# Altium schematic symbol library MCU_Microchip_PIC16.SchLib: 252 symbols (part 3 of 5)
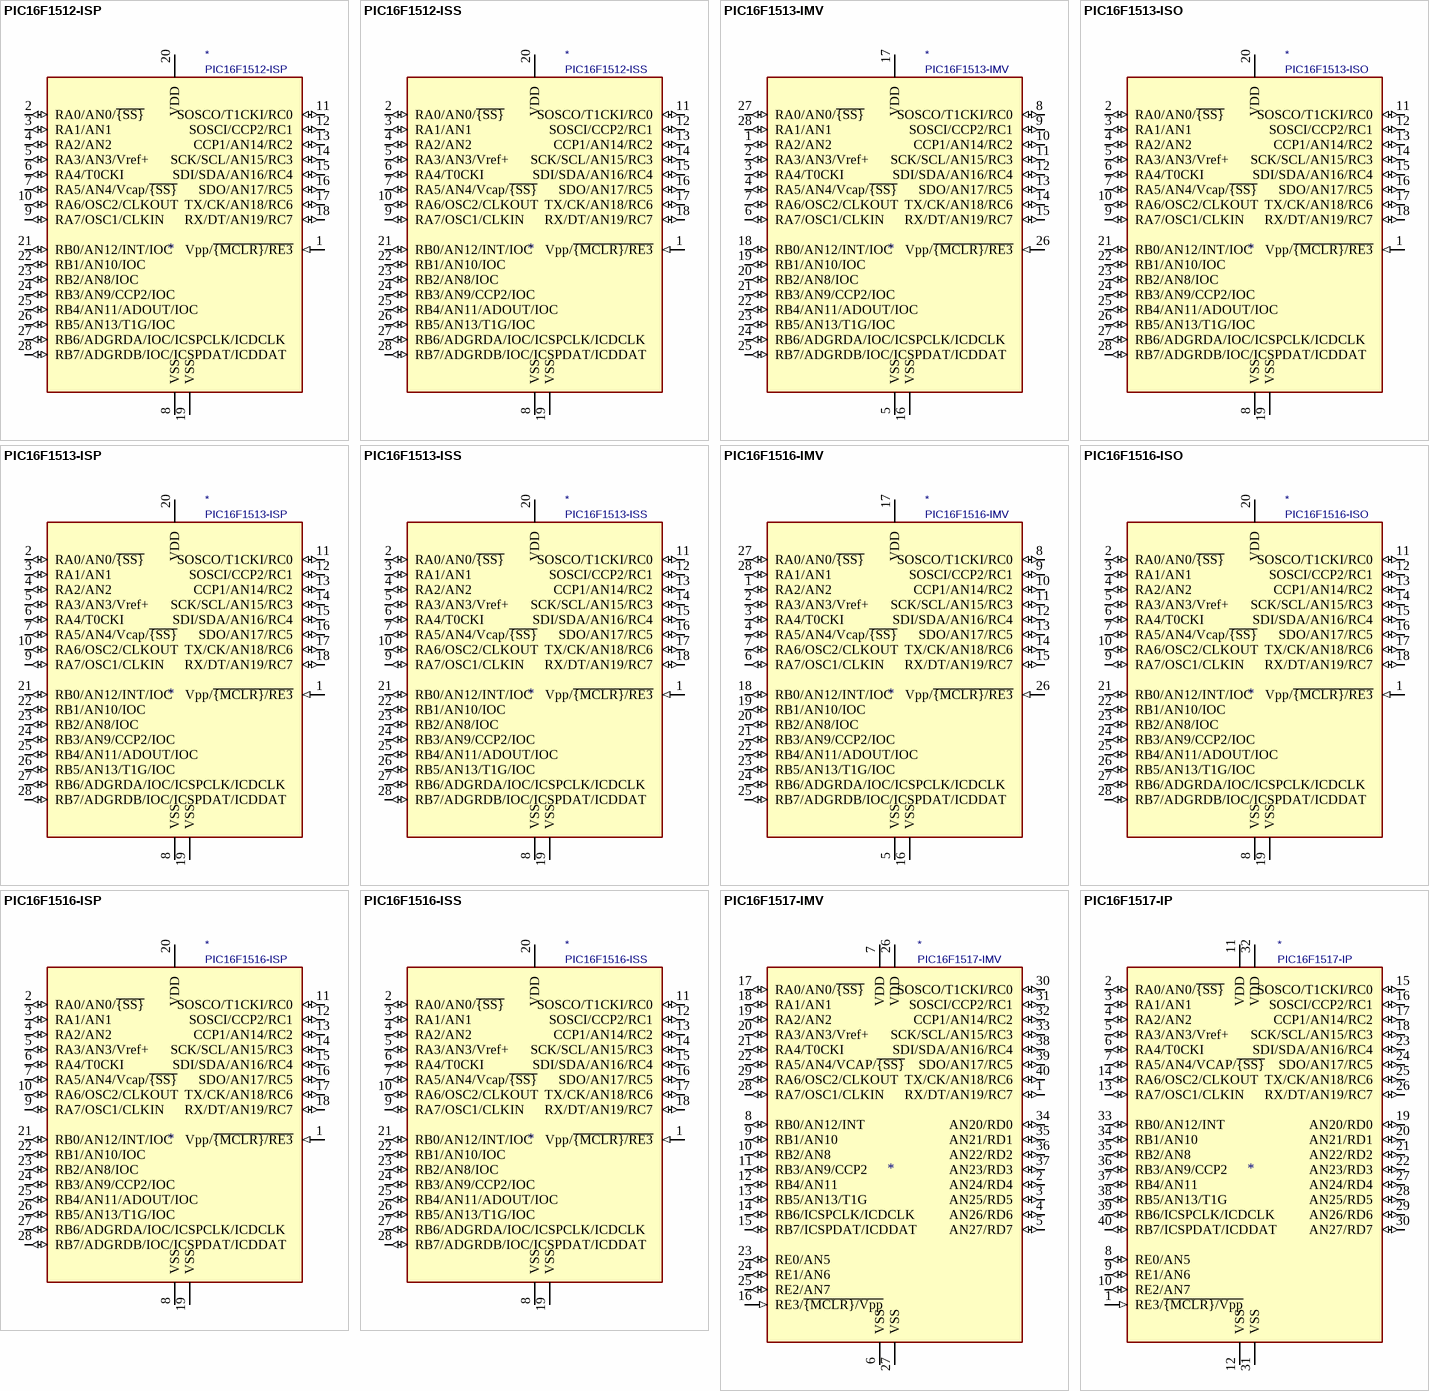
[diagram p20: symbols PIC16F1512-ISP to PIC16F1517-IP]

## PIC16F1512-ISP
designator *  value PIC16F1512-ISP
ki_keywords: FLASH-Based 8-Bit CMOS Microcontroller XLP; ki_description: PIC16F1512, 2048W FLASH, 128B SRAM, SPDIP-28; ki_fp_filters: DIP* PDIP* SO* SSOP*; Supplier: http://ww1.microchip.com/downloads/en/DeviceDoc/41624A.pdf
pins: 1 Vpp/~{{MCLR}/RE3} (in), 2 RA0/AN0/~{{SS}} (io), 3 RA1/AN1 (io), 4 RA2/AN2 (io), 5 RA3/AN3/Vref+ (io), 6 RA4/T0CKI (io), 7 RA5/AN4/Vcap/~{{SS}} (io), 8 VSS (power), 9 RA7/OSC1/CLKIN (io), 10 RA6/OSC2/CLKOUT (io), 11 SOSCO/T1CKI/RC0 (io), 12 SOSCI/CCP2/RC1 (io), 13 CCP1/AN14/RC2 (io), 14 SCK/SCL/AN15/RC3 (io), 15 SDI/SDA/AN16/RC4 (io), 16 SDO/AN17/RC5 (io), 17 TX/CK/AN18/RC6 (io), 18 RX/DT/AN19/RC7 (io), 19 VSS (power), 20 VDD (power), 21 RB0/AN12/INT/IOC (io), 22 RB1/AN10/IOC (io), 23 RB2/AN8/IOC (io), 24 RB3/AN9/CCP2/IOC (io), 25 RB4/AN11/ADOUT/IOC (io), 26 RB5/AN13/T1G/IOC (io), 27 RB6/ADGRDA/IOC/ICSPCLK/ICDCLK (io), 28 RB7/ADGRDB/IOC/ICSPDAT/ICDDAT (io)

## PIC16F1512-ISS
designator *  value PIC16F1512-ISS
ki_keywords: FLASH-Based 8-Bit CMOS Microcontroller XLP; ki_description: PIC16F1512, 2048W FLASH, 128B SRAM, SSOP-28; ki_fp_filters: DIP* PDIP* SO* SSOP*; Supplier: http://ww1.microchip.com/downloads/en/DeviceDoc/41624A.pdf
pins: 1 Vpp/~{{MCLR}/RE3} (in), 2 RA0/AN0/~{{SS}} (io), 3 RA1/AN1 (io), 4 RA2/AN2 (io), 5 RA3/AN3/Vref+ (io), 6 RA4/T0CKI (io), 7 RA5/AN4/Vcap/~{{SS}} (io), 8 VSS (power), 9 RA7/OSC1/CLKIN (io), 10 RA6/OSC2/CLKOUT (io), 11 SOSCO/T1CKI/RC0 (io), 12 SOSCI/CCP2/RC1 (io), 13 CCP1/AN14/RC2 (io), 14 SCK/SCL/AN15/RC3 (io), 15 SDI/SDA/AN16/RC4 (io), 16 SDO/AN17/RC5 (io), 17 TX/CK/AN18/RC6 (io), 18 RX/DT/AN19/RC7 (io), 19 VSS (power), 20 VDD (power), 21 RB0/AN12/INT/IOC (io), 22 RB1/AN10/IOC (io), 23 RB2/AN8/IOC (io), 24 RB3/AN9/CCP2/IOC (io), 25 RB4/AN11/ADOUT/IOC (io), 26 RB5/AN13/T1G/IOC (io), 27 RB6/ADGRDA/IOC/ICSPCLK/ICDCLK (io), 28 RB7/ADGRDB/IOC/ICSPDAT/ICDDAT (io)

## PIC16F1513-IMV
designator *  value PIC16F1513-IMV
ki_keywords: FLASH-Based 8-Bit CMOS Microcontroller XLP; ki_description: PIC16F1513, 4096W FLASH, 256B SRAM, UQFN-28; ki_fp_filters: UQFN*; Supplier: http://ww1.microchip.com/downloads/en/DeviceDoc/41624A.pdf
pins: 1 RA2/AN2 (io), 2 RA3/AN3/Vref+ (io), 3 RA4/T0CKI (io), 4 RA5/AN4/Vcap/~{{SS}} (io), 5 VSS (power), 6 RA7/OSC1/CLKIN (io), 7 RA6/OSC2/CLKOUT (io), 8 SOSCO/T1CKI/RC0 (io), 9 SOSCI/CCP2/RC1 (io), 10 CCP1/AN14/RC2 (io), 11 SCK/SCL/AN15/RC3 (io), 12 SDI/SDA/AN16/RC4 (io), 13 SDO/AN17/RC5 (io), 14 TX/CK/AN18/RC6 (io), 15 RX/DT/AN19/RC7 (io), 16 VSS (power), 17 VDD (power), 18 RB0/AN12/INT/IOC (io), 19 RB1/AN10/IOC (io), 20 RB2/AN8/IOC (io), 21 RB3/AN9/CCP2/IOC (io), 22 RB4/AN11/ADOUT/IOC (io), 23 RB5/AN13/T1G/IOC (io), 24 RB6/ADGRDA/IOC/ICSPCLK/ICDCLK (io), 25 RB7/ADGRDB/IOC/ICSPDAT/ICDDAT (io), 26 Vpp/~{{MCLR}/RE3} (in), 27 RA0/AN0/~{{SS}} (io), 28 RA1/AN1 (io)

## PIC16F1513-ISO
designator *  value PIC16F1513-ISO
ki_keywords: FLASH-Based 8-Bit CMOS Microcontroller XLP; ki_description: PIC16F1513, 4096W FLASH, 2568B SRAM, SO-28; ki_fp_filters: DIP* PDIP* SO* SSOP*; Supplier: http://ww1.microchip.com/downloads/en/DeviceDoc/41624A.pdf
pins: 1 Vpp/~{{MCLR}/RE3} (in), 2 RA0/AN0/~{{SS}} (io), 3 RA1/AN1 (io), 4 RA2/AN2 (io), 5 RA3/AN3/Vref+ (io), 6 RA4/T0CKI (io), 7 RA5/AN4/Vcap/~{{SS}} (io), 8 VSS (power), 9 RA7/OSC1/CLKIN (io), 10 RA6/OSC2/CLKOUT (io), 11 SOSCO/T1CKI/RC0 (io), 12 SOSCI/CCP2/RC1 (io), 13 CCP1/AN14/RC2 (io), 14 SCK/SCL/AN15/RC3 (io), 15 SDI/SDA/AN16/RC4 (io), 16 SDO/AN17/RC5 (io), 17 TX/CK/AN18/RC6 (io), 18 RX/DT/AN19/RC7 (io), 19 VSS (power), 20 VDD (power), 21 RB0/AN12/INT/IOC (io), 22 RB1/AN10/IOC (io), 23 RB2/AN8/IOC (io), 24 RB3/AN9/CCP2/IOC (io), 25 RB4/AN11/ADOUT/IOC (io), 26 RB5/AN13/T1G/IOC (io), 27 RB6/ADGRDA/IOC/ICSPCLK/ICDCLK (io), 28 RB7/ADGRDB/IOC/ICSPDAT/ICDDAT (io)

## PIC16F1513-ISP
designator *  value PIC16F1513-ISP
ki_keywords: FLASH-Based 8-Bit CMOS Microcontroller XLP; ki_description: PIC16F1513, 4096W FLASH, 2568B SRAM, SPDIP-28; ki_fp_filters: DIP* PDIP* SO* SSOP*; Supplier: http://ww1.microchip.com/downloads/en/DeviceDoc/41624A.pdf
pins: 1 Vpp/~{{MCLR}/RE3} (in), 2 RA0/AN0/~{{SS}} (io), 3 RA1/AN1 (io), 4 RA2/AN2 (io), 5 RA3/AN3/Vref+ (io), 6 RA4/T0CKI (io), 7 RA5/AN4/Vcap/~{{SS}} (io), 8 VSS (power), 9 RA7/OSC1/CLKIN (io), 10 RA6/OSC2/CLKOUT (io), 11 SOSCO/T1CKI/RC0 (io), 12 SOSCI/CCP2/RC1 (io), 13 CCP1/AN14/RC2 (io), 14 SCK/SCL/AN15/RC3 (io), 15 SDI/SDA/AN16/RC4 (io), 16 SDO/AN17/RC5 (io), 17 TX/CK/AN18/RC6 (io), 18 RX/DT/AN19/RC7 (io), 19 VSS (power), 20 VDD (power), 21 RB0/AN12/INT/IOC (io), 22 RB1/AN10/IOC (io), 23 RB2/AN8/IOC (io), 24 RB3/AN9/CCP2/IOC (io), 25 RB4/AN11/ADOUT/IOC (io), 26 RB5/AN13/T1G/IOC (io), 27 RB6/ADGRDA/IOC/ICSPCLK/ICDCLK (io), 28 RB7/ADGRDB/IOC/ICSPDAT/ICDDAT (io)

## PIC16F1513-ISS
designator *  value PIC16F1513-ISS
ki_keywords: FLASH-Based 8-Bit CMOS Microcontroller XLP; ki_description: PIC16F1513, 4096W FLASH, 2568B SRAM, SSOP-28; ki_fp_filters: DIP* PDIP* SO* SSOP*; Supplier: http://ww1.microchip.com/downloads/en/DeviceDoc/41624A.pdf
pins: 1 Vpp/~{{MCLR}/RE3} (in), 2 RA0/AN0/~{{SS}} (io), 3 RA1/AN1 (io), 4 RA2/AN2 (io), 5 RA3/AN3/Vref+ (io), 6 RA4/T0CKI (io), 7 RA5/AN4/Vcap/~{{SS}} (io), 8 VSS (power), 9 RA7/OSC1/CLKIN (io), 10 RA6/OSC2/CLKOUT (io), 11 SOSCO/T1CKI/RC0 (io), 12 SOSCI/CCP2/RC1 (io), 13 CCP1/AN14/RC2 (io), 14 SCK/SCL/AN15/RC3 (io), 15 SDI/SDA/AN16/RC4 (io), 16 SDO/AN17/RC5 (io), 17 TX/CK/AN18/RC6 (io), 18 RX/DT/AN19/RC7 (io), 19 VSS (power), 20 VDD (power), 21 RB0/AN12/INT/IOC (io), 22 RB1/AN10/IOC (io), 23 RB2/AN8/IOC (io), 24 RB3/AN9/CCP2/IOC (io), 25 RB4/AN11/ADOUT/IOC (io), 26 RB5/AN13/T1G/IOC (io), 27 RB6/ADGRDA/IOC/ICSPCLK/ICDCLK (io), 28 RB7/ADGRDB/IOC/ICSPDAT/ICDDAT (io)

## PIC16F1516-IMV
designator *  value PIC16F1516-IMV
ki_keywords: FLASH-Based 8-Bit CMOS Microcontroller XLP; ki_description: PIC16F1516, 8192W FLASH, 512B SRAM, UQFN-28; ki_fp_filters: UQFN*; Supplier: http://ww1.microchip.com/downloads/en/DeviceDoc/41452B.pdf
pins: 1 RA2/AN2 (io), 2 RA3/AN3/Vref+ (io), 3 RA4/T0CKI (io), 4 RA5/AN4/Vcap/~{{SS}} (io), 5 VSS (power), 6 RA7/OSC1/CLKIN (io), 7 RA6/OSC2/CLKOUT (io), 8 SOSCO/T1CKI/RC0 (io), 9 SOSCI/CCP2/RC1 (io), 10 CCP1/AN14/RC2 (io), 11 SCK/SCL/AN15/RC3 (io), 12 SDI/SDA/AN16/RC4 (io), 13 SDO/AN17/RC5 (io), 14 TX/CK/AN18/RC6 (io), 15 RX/DT/AN19/RC7 (io), 16 VSS (power), 17 VDD (power), 18 RB0/AN12/INT/IOC (io), 19 RB1/AN10/IOC (io), 20 RB2/AN8/IOC (io), 21 RB3/AN9/CCP2/IOC (io), 22 RB4/AN11/ADOUT/IOC (io), 23 RB5/AN13/T1G/IOC (io), 24 RB6/ADGRDA/IOC/ICSPCLK/ICDCLK (io), 25 RB7/ADGRDB/IOC/ICSPDAT/ICDDAT (io), 26 Vpp/~{{MCLR}/RE3} (in), 27 RA0/AN0/~{{SS}} (io), 28 RA1/AN1 (io)

## PIC16F1516-ISO
designator *  value PIC16F1516-ISO
ki_keywords: FLASH-Based 8-Bit CMOS Microcontroller XLP; ki_description: PIC16F1516, 8192W FLASH, 512B SRAM, SO-28; ki_fp_filters: DIP* PDIP* SO* SSOP*; Supplier: http://ww1.microchip.com/downloads/en/DeviceDoc/41452B.pdf
pins: 1 Vpp/~{{MCLR}/RE3} (in), 2 RA0/AN0/~{{SS}} (io), 3 RA1/AN1 (io), 4 RA2/AN2 (io), 5 RA3/AN3/Vref+ (io), 6 RA4/T0CKI (io), 7 RA5/AN4/Vcap/~{{SS}} (io), 8 VSS (power), 9 RA7/OSC1/CLKIN (io), 10 RA6/OSC2/CLKOUT (io), 11 SOSCO/T1CKI/RC0 (io), 12 SOSCI/CCP2/RC1 (io), 13 CCP1/AN14/RC2 (io), 14 SCK/SCL/AN15/RC3 (io), 15 SDI/SDA/AN16/RC4 (io), 16 SDO/AN17/RC5 (io), 17 TX/CK/AN18/RC6 (io), 18 RX/DT/AN19/RC7 (io), 19 VSS (power), 20 VDD (power), 21 RB0/AN12/INT/IOC (io), 22 RB1/AN10/IOC (io), 23 RB2/AN8/IOC (io), 24 RB3/AN9/CCP2/IOC (io), 25 RB4/AN11/ADOUT/IOC (io), 26 RB5/AN13/T1G/IOC (io), 27 RB6/ADGRDA/IOC/ICSPCLK/ICDCLK (io), 28 RB7/ADGRDB/IOC/ICSPDAT/ICDDAT (io)

## PIC16F1516-ISP
designator *  value PIC16F1516-ISP
ki_keywords: FLASH-Based 8-Bit CMOS Microcontroller XLP; ki_description: PIC16F1516, 8192W FLASH, 512B SRAM, SPDIP-28; ki_fp_filters: DIP* PDIP* SO* SSOP*; Supplier: http://ww1.microchip.com/downloads/en/DeviceDoc/41452B.pdf
pins: 1 Vpp/~{{MCLR}/RE3} (in), 2 RA0/AN0/~{{SS}} (io), 3 RA1/AN1 (io), 4 RA2/AN2 (io), 5 RA3/AN3/Vref+ (io), 6 RA4/T0CKI (io), 7 RA5/AN4/Vcap/~{{SS}} (io), 8 VSS (power), 9 RA7/OSC1/CLKIN (io), 10 RA6/OSC2/CLKOUT (io), 11 SOSCO/T1CKI/RC0 (io), 12 SOSCI/CCP2/RC1 (io), 13 CCP1/AN14/RC2 (io), 14 SCK/SCL/AN15/RC3 (io), 15 SDI/SDA/AN16/RC4 (io), 16 SDO/AN17/RC5 (io), 17 TX/CK/AN18/RC6 (io), 18 RX/DT/AN19/RC7 (io), 19 VSS (power), 20 VDD (power), 21 RB0/AN12/INT/IOC (io), 22 RB1/AN10/IOC (io), 23 RB2/AN8/IOC (io), 24 RB3/AN9/CCP2/IOC (io), 25 RB4/AN11/ADOUT/IOC (io), 26 RB5/AN13/T1G/IOC (io), 27 RB6/ADGRDA/IOC/ICSPCLK/ICDCLK (io), 28 RB7/ADGRDB/IOC/ICSPDAT/ICDDAT (io)

## PIC16F1516-ISS
designator *  value PIC16F1516-ISS
ki_keywords: FLASH-Based 8-Bit CMOS Microcontroller XLP; ki_description: PIC16F1516, 8192W FLASH, 512B SRAM, SSOP-28; ki_fp_filters: DIP* PDIP* SO* SSOP*; Supplier: http://ww1.microchip.com/downloads/en/DeviceDoc/41452B.pdf
pins: 1 Vpp/~{{MCLR}/RE3} (in), 2 RA0/AN0/~{{SS}} (io), 3 RA1/AN1 (io), 4 RA2/AN2 (io), 5 RA3/AN3/Vref+ (io), 6 RA4/T0CKI (io), 7 RA5/AN4/Vcap/~{{SS}} (io), 8 VSS (power), 9 RA7/OSC1/CLKIN (io), 10 RA6/OSC2/CLKOUT (io), 11 SOSCO/T1CKI/RC0 (io), 12 SOSCI/CCP2/RC1 (io), 13 CCP1/AN14/RC2 (io), 14 SCK/SCL/AN15/RC3 (io), 15 SDI/SDA/AN16/RC4 (io), 16 SDO/AN17/RC5 (io), 17 TX/CK/AN18/RC6 (io), 18 RX/DT/AN19/RC7 (io), 19 VSS (power), 20 VDD (power), 21 RB0/AN12/INT/IOC (io), 22 RB1/AN10/IOC (io), 23 RB2/AN8/IOC (io), 24 RB3/AN9/CCP2/IOC (io), 25 RB4/AN11/ADOUT/IOC (io), 26 RB5/AN13/T1G/IOC (io), 27 RB6/ADGRDA/IOC/ICSPCLK/ICDCLK (io), 28 RB7/ADGRDB/IOC/ICSPDAT/ICDDAT (io)

## PIC16F1517-IMV
designator *  value PIC16F1517-IMV
ki_keywords: FLASH-Based 8-Bit CMOS Microcontroller XLP; ki_description: PIC16F1517, 8192W FLASH, 512B SRAM, UQFN-40; ki_fp_filters: UQFN*; Supplier: http://ww1.microchip.com/downloads/en/DeviceDoc/41452B.pdf
pins: 1 RX/DT/AN19/RC7 (io), 2 AN24/RD4 (io), 3 AN25/RD5 (io), 4 AN26/RD6 (io), 5 AN27/RD7 (io), 6 VSS (power), 7 VDD (power), 8 RB0/AN12/INT (io), 9 RB1/AN10 (io), 10 RB2/AN8 (io), 11 RB3/AN9/CCP2 (io), 12 RB4/AN11 (io), 13 RB5/AN13/T1G (io), 14 RB6/ICSPCLK/ICDCLK (io), 15 RB7/ICSPDAT/ICDDAT (io), 16 RE3/~{{MCLR}/Vpp} (in), 17 RA0/AN0/~{{SS}} (io), 18 RA1/AN1 (io), 19 RA2/AN2 (io), 20 RA3/AN3/Vref+ (io), 21 RA4/T0CKI (io), 22 RA5/AN4/VCAP/~{{SS}} (io), 23 RE0/AN5 (io), 24 RE1/AN6 (io), 25 RE2/AN7 (io), 26 VDD (power), 27 VSS (power), 28 RA7/OSC1/CLKIN (io), 29 RA6/OSC2/CLKOUT (io), 30 SOSCO/T1CKI/RC0 (io), 31 SOSCI/CCP2/RC1 (io), 32 CCP1/AN14/RC2 (io), 33 SCK/SCL/AN15/RC3 (io), 34 AN20/RD0 (io), 35 AN21/RD1 (io), 36 AN22/RD2 (io), 37 AN23/RD3 (io), 38 SDI/SDA/AN16/RC4 (io), 39 SDO/AN17/RC5 (io), 40 TX/CK/AN18/RC6 (io)

## PIC16F1517-IP
designator *  value PIC16F1517-IP
ki_keywords: FLASH-Based 8-Bit CMOS Microcontroller XLP; ki_description: 8192W FLASH, 512B SRAM, PDIP-40; ki_fp_filters: DIP* PDIP*; Supplier: http://ww1.microchip.com/downloads/en/DeviceDoc/41452B.pdf
pins: 1 RE3/~{{MCLR}/Vpp} (in), 2 RA0/AN0/~{{SS}} (io), 3 RA1/AN1 (io), 4 RA2/AN2 (io), 5 RA3/AN3/Vref+ (io), 6 RA4/T0CKI (io), 7 RA5/AN4/VCAP/~{{SS}} (io), 8 RE0/AN5 (io), 9 RE1/AN6 (io), 10 RE2/AN7 (io), 11 VDD (power), 12 VSS (power), 13 RA7/OSC1/CLKIN (io), 14 RA6/OSC2/CLKOUT (io), 15 SOSCO/T1CKI/RC0 (io), 16 SOSCI/CCP2/RC1 (io), 17 CCP1/AN14/RC2 (io), 18 SCK/SCL/AN15/RC3 (io), 19 AN20/RD0 (io), 20 AN21/RD1 (io), 21 AN22/RD2 (io), 22 AN23/RD3 (io), 23 SDI/SDA/AN16/RC4 (io), 24 SDO/AN17/RC5 (io), 25 TX/CK/AN18/RC6 (io), 26 RX/DT/AN19/RC7 (io), 27 AN24/RD4 (io), 28 AN25/RD5 (io), 29 AN26/RD6 (io), 30 AN27/RD7 (io), 31 VSS (power), 32 VDD (power), 33 RB0/AN12/INT (io), 34 RB1/AN10 (io), 35 RB2/AN8 (io), 36 RB3/AN9/CCP2 (io), 37 RB4/AN11 (io), 38 RB5/AN13/T1G (io), 39 RB6/ICSPCLK/ICDCLK (io), 40 RB7/ICSPDAT/ICDDAT (io)

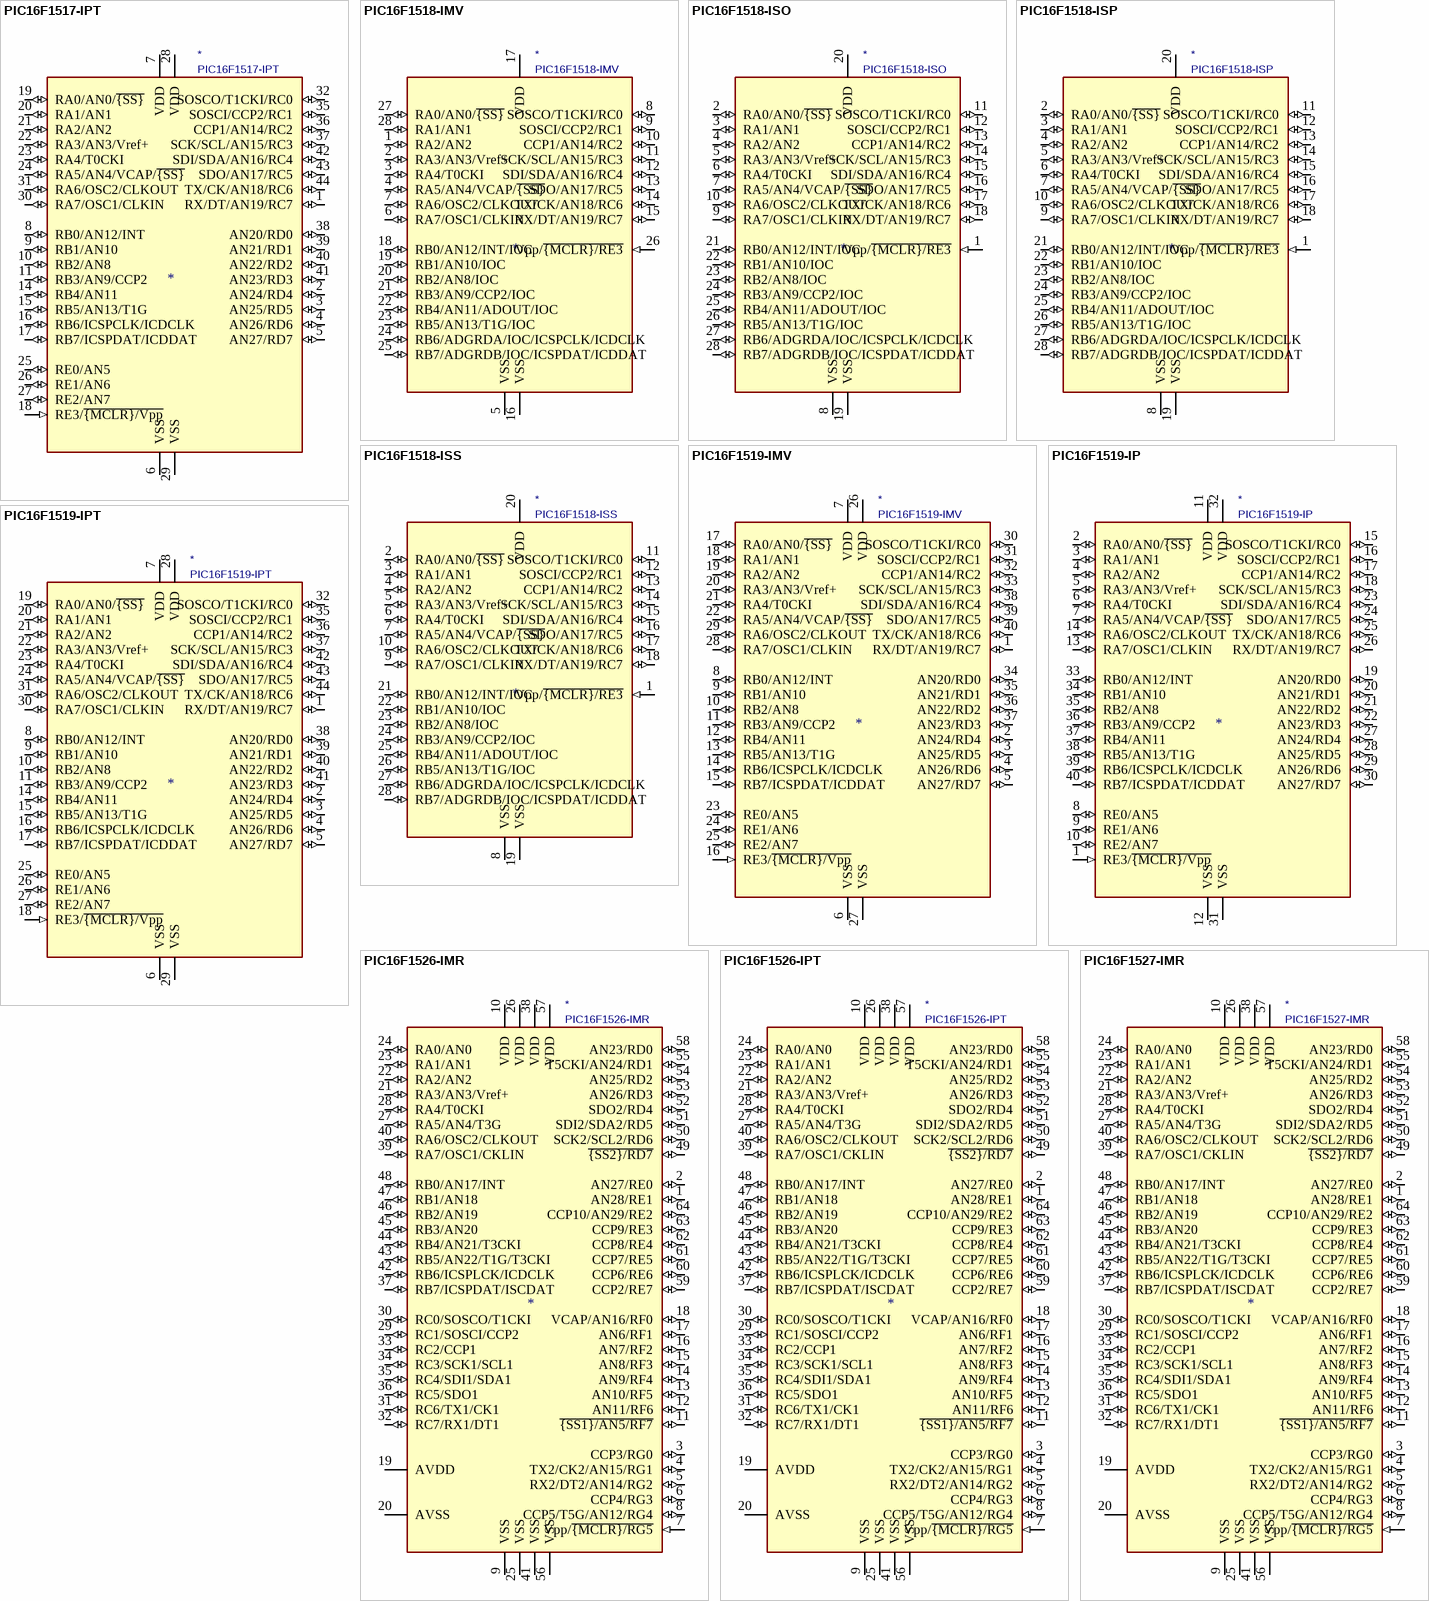
[diagram p11: symbols PIC16F1517-IPT to PIC16F1527-IMR]

## PIC16F1517-IPT
designator *  value PIC16F1517-IPT
ki_keywords: FLASH-Based 8-Bit CMOS Microcontroller XLP; ki_description: PIC16F1517, 8192W FLASH, 512B SRAM, TQFP-40; ki_fp_filters: TQFP*; Supplier: http://ww1.microchip.com/downloads/en/DeviceDoc/41452B.pdf
pins: 1 RX/DT/AN19/RC7 (io), 2 AN24/RD4 (io), 3 AN25/RD5 (io), 4 AN26/RD6 (io), 5 AN27/RD7 (io), 6 VSS (power), 7 VDD (power), 8 RB0/AN12/INT (io), 9 RB1/AN10 (io), 10 RB2/AN8 (io), 11 RB3/AN9/CCP2 (io), 14 RB4/AN11 (io), 15 RB5/AN13/T1G (io), 16 RB6/ICSPCLK/ICDCLK (io), 17 RB7/ICSPDAT/ICDDAT (io), 18 RE3/~{{MCLR}/Vpp} (in), 19 RA0/AN0/~{{SS}} (io), 20 RA1/AN1 (io), 21 RA2/AN2 (io), 22 RA3/AN3/Vref+ (io), 23 RA4/T0CKI (io), 24 RA5/AN4/VCAP/~{{SS}} (io), 25 RE0/AN5 (io), 26 RE1/AN6 (io), 27 RE2/AN7 (io), 28 VDD (power), 29 VSS (power), 30 RA7/OSC1/CLKIN (io), 31 RA6/OSC2/CLKOUT (io), 32 SOSCO/T1CKI/RC0 (io), 35 SOSCI/CCP2/RC1 (io), 36 CCP1/AN14/RC2 (io), 37 SCK/SCL/AN15/RC3 (io), 38 AN20/RD0 (io), 39 AN21/RD1 (io), 40 AN22/RD2 (io), 41 AN23/RD3 (io), 42 SDI/SDA/AN16/RC4 (io), 43 SDO/AN17/RC5 (io), 44 TX/CK/AN18/RC6 (io)

## PIC16F1518-IMV
designator *  value PIC16F1518-IMV
ki_keywords: FLASH-Based 8-Bit CMOS Microcontroller XLP; ki_description: PIC16F1518, 16384W FLASH, 1204B SRAM, UQFN-28; ki_fp_filters: UQFN*; Supplier: http://ww1.microchip.com/downloads/en/DeviceDoc/41452B.pdf
pins: 1 RA2/AN2 (io), 2 RA3/AN3/Vref+ (io), 3 RA4/T0CKI (io), 4 RA5/AN4/VCAP/~{{SS}} (io), 5 VSS (power), 6 RA7/OSC1/CLKIN (io), 7 RA6/OSC2/CLKOUT (io), 8 SOSCO/T1CKI/RC0 (io), 9 SOSCI/CCP2/RC1 (io), 10 CCP1/AN14/RC2 (io), 11 SCK/SCL/AN15/RC3 (io), 12 SDI/SDA/AN16/RC4 (io), 13 SDO/AN17/RC5 (io), 14 TX/CK/AN18/RC6 (io), 15 RX/DT/AN19/RC7 (io), 16 VSS (power), 17 VDD (power), 18 RB0/AN12/INT/IOC (io), 19 RB1/AN10/IOC (io), 20 RB2/AN8/IOC (io), 21 RB3/AN9/CCP2/IOC (io), 22 RB4/AN11/ADOUT/IOC (io), 23 RB5/AN13/T1G/IOC (io), 24 RB6/ADGRDA/IOC/ICSPCLK/ICDCLK (io), 25 RB7/ADGRDB/IOC/ICSPDAT/ICDDAT (io), 26 Vpp/~{{MCLR}/RE3} (in), 27 RA0/AN0/~{{SS}} (io), 28 RA1/AN1 (io)

## PIC16F1518-ISO
designator *  value PIC16F1518-ISO
ki_keywords: FLASH-Based 8-Bit CMOS Microcontroller XLP; ki_description: PIC16F1518, 16384W FLASH, 1024B SRAM, SO-28; ki_fp_filters: DIP* PDIP* SO* SSOP*; Supplier: http://ww1.microchip.com/downloads/en/DeviceDoc/41452B.pdf
pins: 1 Vpp/~{{MCLR}/RE3} (in), 2 RA0/AN0/~{{SS}} (io), 3 RA1/AN1 (io), 4 RA2/AN2 (io), 5 RA3/AN3/Vref+ (io), 6 RA4/T0CKI (io), 7 RA5/AN4/VCAP/~{{SS}} (io), 8 VSS (power), 9 RA7/OSC1/CLKIN (io), 10 RA6/OSC2/CLKOUT (io), 11 SOSCO/T1CKI/RC0 (io), 12 SOSCI/CCP2/RC1 (io), 13 CCP1/AN14/RC2 (io), 14 SCK/SCL/AN15/RC3 (io), 15 SDI/SDA/AN16/RC4 (io), 16 SDO/AN17/RC5 (io), 17 TX/CK/AN18/RC6 (io), 18 RX/DT/AN19/RC7 (io), 19 VSS (power), 20 VDD (power), 21 RB0/AN12/INT/IOC (io), 22 RB1/AN10/IOC (io), 23 RB2/AN8/IOC (io), 24 RB3/AN9/CCP2/IOC (io), 25 RB4/AN11/ADOUT/IOC (io), 26 RB5/AN13/T1G/IOC (io), 27 RB6/ADGRDA/IOC/ICSPCLK/ICDCLK (io), 28 RB7/ADGRDB/IOC/ICSPDAT/ICDDAT (io)

## PIC16F1518-ISP
designator *  value PIC16F1518-ISP
ki_keywords: FLASH-Based 8-Bit CMOS Microcontroller XLP; ki_description: PIC16F1518, 16384W FLASH, 1024B SRAM, SPDIP-28; ki_fp_filters: DIP* PDIP* SO* SSOP*; Supplier: http://ww1.microchip.com/downloads/en/DeviceDoc/41452B.pdf
pins: 1 Vpp/~{{MCLR}/RE3} (in), 2 RA0/AN0/~{{SS}} (io), 3 RA1/AN1 (io), 4 RA2/AN2 (io), 5 RA3/AN3/Vref+ (io), 6 RA4/T0CKI (io), 7 RA5/AN4/VCAP/~{{SS}} (io), 8 VSS (power), 9 RA7/OSC1/CLKIN (io), 10 RA6/OSC2/CLKOUT (io), 11 SOSCO/T1CKI/RC0 (io), 12 SOSCI/CCP2/RC1 (io), 13 CCP1/AN14/RC2 (io), 14 SCK/SCL/AN15/RC3 (io), 15 SDI/SDA/AN16/RC4 (io), 16 SDO/AN17/RC5 (io), 17 TX/CK/AN18/RC6 (io), 18 RX/DT/AN19/RC7 (io), 19 VSS (power), 20 VDD (power), 21 RB0/AN12/INT/IOC (io), 22 RB1/AN10/IOC (io), 23 RB2/AN8/IOC (io), 24 RB3/AN9/CCP2/IOC (io), 25 RB4/AN11/ADOUT/IOC (io), 26 RB5/AN13/T1G/IOC (io), 27 RB6/ADGRDA/IOC/ICSPCLK/ICDCLK (io), 28 RB7/ADGRDB/IOC/ICSPDAT/ICDDAT (io)

## PIC16F1518-ISS
designator *  value PIC16F1518-ISS
ki_keywords: FLASH-Based 8-Bit CMOS Microcontroller XLP; ki_description: PIC16F1518, 16384W FLASH, 1024B SRAM, SSOP-28; ki_fp_filters: DIP* PDIP* SO* SSOP*; Supplier: http://ww1.microchip.com/downloads/en/DeviceDoc/41452B.pdf
pins: 1 Vpp/~{{MCLR}/RE3} (in), 2 RA0/AN0/~{{SS}} (io), 3 RA1/AN1 (io), 4 RA2/AN2 (io), 5 RA3/AN3/Vref+ (io), 6 RA4/T0CKI (io), 7 RA5/AN4/VCAP/~{{SS}} (io), 8 VSS (power), 9 RA7/OSC1/CLKIN (io), 10 RA6/OSC2/CLKOUT (io), 11 SOSCO/T1CKI/RC0 (io), 12 SOSCI/CCP2/RC1 (io), 13 CCP1/AN14/RC2 (io), 14 SCK/SCL/AN15/RC3 (io), 15 SDI/SDA/AN16/RC4 (io), 16 SDO/AN17/RC5 (io), 17 TX/CK/AN18/RC6 (io), 18 RX/DT/AN19/RC7 (io), 19 VSS (power), 20 VDD (power), 21 RB0/AN12/INT/IOC (io), 22 RB1/AN10/IOC (io), 23 RB2/AN8/IOC (io), 24 RB3/AN9/CCP2/IOC (io), 25 RB4/AN11/ADOUT/IOC (io), 26 RB5/AN13/T1G/IOC (io), 27 RB6/ADGRDA/IOC/ICSPCLK/ICDCLK (io), 28 RB7/ADGRDB/IOC/ICSPDAT/ICDDAT (io)

## PIC16F1519-IMV
designator *  value PIC16F1519-IMV
ki_keywords: FLASH-Based 8-Bit CMOS Microcontroller XLP; ki_description: PIC16F1519, 16384W FLASH, 1024B SRAM, UQFN-40; ki_fp_filters: UQFN*; Supplier: http://ww1.microchip.com/downloads/en/DeviceDoc/41452B.pdf
pins: 1 RX/DT/AN19/RC7 (io), 2 AN24/RD4 (io), 3 AN25/RD5 (io), 4 AN26/RD6 (io), 5 AN27/RD7 (io), 6 VSS (power), 7 VDD (power), 8 RB0/AN12/INT (io), 9 RB1/AN10 (io), 10 RB2/AN8 (io), 11 RB3/AN9/CCP2 (io), 12 RB4/AN11 (io), 13 RB5/AN13/T1G (io), 14 RB6/ICSPCLK/ICDCLK (io), 15 RB7/ICSPDAT/ICDDAT (io), 16 RE3/~{{MCLR}/Vpp} (in), 17 RA0/AN0/~{{SS}} (io), 18 RA1/AN1 (io), 19 RA2/AN2 (io), 20 RA3/AN3/Vref+ (io), 21 RA4/T0CKI (io), 22 RA5/AN4/VCAP/~{{SS}} (io), 23 RE0/AN5 (io), 24 RE1/AN6 (io), 25 RE2/AN7 (io), 26 VDD (power), 27 VSS (power), 28 RA7/OSC1/CLKIN (io), 29 RA6/OSC2/CLKOUT (io), 30 SOSCO/T1CKI/RC0 (io), 31 SOSCI/CCP2/RC1 (io), 32 CCP1/AN14/RC2 (io), 33 SCK/SCL/AN15/RC3 (io), 34 AN20/RD0 (io), 35 AN21/RD1 (io), 36 AN22/RD2 (io), 37 AN23/RD3 (io), 38 SDI/SDA/AN16/RC4 (io), 39 SDO/AN17/RC5 (io), 40 TX/CK/AN18/RC6 (io)

## PIC16F1519-IP
designator *  value PIC16F1519-IP
ki_keywords: FLASH-Based 8-Bit CMOS Microcontroller XLP; ki_description: 16384W FLASH, 1024B SRAM, PDIP-40; ki_fp_filters: DIP* PDIP*; Supplier: http://ww1.microchip.com/downloads/en/DeviceDoc/41452B.pdf
pins: 1 RE3/~{{MCLR}/Vpp} (in), 2 RA0/AN0/~{{SS}} (io), 3 RA1/AN1 (io), 4 RA2/AN2 (io), 5 RA3/AN3/Vref+ (io), 6 RA4/T0CKI (io), 7 RA5/AN4/VCAP/~{{SS}} (io), 8 RE0/AN5 (io), 9 RE1/AN6 (io), 10 RE2/AN7 (io), 11 VDD (power), 12 VSS (power), 13 RA7/OSC1/CLKIN (io), 14 RA6/OSC2/CLKOUT (io), 15 SOSCO/T1CKI/RC0 (io), 16 SOSCI/CCP2/RC1 (io), 17 CCP1/AN14/RC2 (io), 18 SCK/SCL/AN15/RC3 (io), 19 AN20/RD0 (io), 20 AN21/RD1 (io), 21 AN22/RD2 (io), 22 AN23/RD3 (io), 23 SDI/SDA/AN16/RC4 (io), 24 SDO/AN17/RC5 (io), 25 TX/CK/AN18/RC6 (io), 26 RX/DT/AN19/RC7 (io), 27 AN24/RD4 (io), 28 AN25/RD5 (io), 29 AN26/RD6 (io), 30 AN27/RD7 (io), 31 VSS (power), 32 VDD (power), 33 RB0/AN12/INT (io), 34 RB1/AN10 (io), 35 RB2/AN8 (io), 36 RB3/AN9/CCP2 (io), 37 RB4/AN11 (io), 38 RB5/AN13/T1G (io), 39 RB6/ICSPCLK/ICDCLK (io), 40 RB7/ICSPDAT/ICDDAT (io)

## PIC16F1519-IPT
designator *  value PIC16F1519-IPT
ki_keywords: FLASH-Based 8-Bit CMOS Microcontroller XLP; ki_description: PIC16F1519, 16384W FLASH, 1024B SRAM, TQFP-40; ki_fp_filters: TQFP*; Supplier: http://ww1.microchip.com/downloads/en/DeviceDoc/41452B.pdf
pins: 1 RX/DT/AN19/RC7 (io), 2 AN24/RD4 (io), 3 AN25/RD5 (io), 4 AN26/RD6 (io), 5 AN27/RD7 (io), 6 VSS (power), 7 VDD (power), 8 RB0/AN12/INT (io), 9 RB1/AN10 (io), 10 RB2/AN8 (io), 11 RB3/AN9/CCP2 (io), 14 RB4/AN11 (io), 15 RB5/AN13/T1G (io), 16 RB6/ICSPCLK/ICDCLK (io), 17 RB7/ICSPDAT/ICDDAT (io), 18 RE3/~{{MCLR}/Vpp} (in), 19 RA0/AN0/~{{SS}} (io), 20 RA1/AN1 (io), 21 RA2/AN2 (io), 22 RA3/AN3/Vref+ (io), 23 RA4/T0CKI (io), 24 RA5/AN4/VCAP/~{{SS}} (io), 25 RE0/AN5 (io), 26 RE1/AN6 (io), 27 RE2/AN7 (io), 28 VDD (power), 29 VSS (power), 30 RA7/OSC1/CLKIN (io), 31 RA6/OSC2/CLKOUT (io), 32 SOSCO/T1CKI/RC0 (io), 35 SOSCI/CCP2/RC1 (io), 36 CCP1/AN14/RC2 (io), 37 SCK/SCL/AN15/RC3 (io), 38 AN20/RD0 (io), 39 AN21/RD1 (io), 40 AN22/RD2 (io), 41 AN23/RD3 (io), 42 SDI/SDA/AN16/RC4 (io), 43 SDO/AN17/RC5 (io), 44 TX/CK/AN18/RC6 (io)

## PIC16F1526-IMR
designator *  value PIC16F1526-IMR
ki_keywords: FLASH-Based 8-Bit CMOS Microcontroller XLP; ki_description: PIC16F1526, 8192W FLASH, 768B SRAM, UQFN-64; ki_fp_filters: TQFP* QFN*; Supplier: http://ww1.microchip.com/downloads/en/DeviceDoc/41458B.pdf
pins: 1 AN28/RE1 (io), 2 AN27/RE0 (io), 3 CCP3/RG0 (io), 4 TX2/CK2/AN15/RG1 (io), 5 RX2/DT2/AN14/RG2 (io), 6 CCP4/RG3 (io), 7 Vpp/~{{MCLR}/RG5} (in), 8 CCP5/T5G/AN12/RG4 (io), 9 VSS (power), 10 VDD (power), 11 ~{{SS1}/AN5/RF7} (io), 12 AN11/RF6 (io), 13 AN10/RF5 (io), 14 AN9/RF4 (io), 15 AN8/RF3 (io), 16 AN7/RF2 (io), 17 AN6/RF1 (io), 18 VCAP/AN16/RF0 (io), 19 AVDD (power), 20 AVSS (power), 21 RA3/AN3/Vref+ (io), 22 RA2/AN2 (io), 23 RA1/AN1 (io), 24 RA0/AN0 (io), 25 VSS (power), 26 VDD (power), 27 RA5/AN4/T3G (io), 28 RA4/T0CKI (io), 29 RC1/SOSCI/CCP2 (io), 30 RC0/SOSCO/T1CKI (io), 31 RC6/TX1/CK1 (io), 32 RC7/RX1/DT1 (io), 33 RC2/CCP1 (io), 34 RC3/SCK1/SCL1 (io), 35 RC4/SDI1/SDA1 (io), 36 RC5/SDO1 (io), 37 RB7/ICSPDAT/ISCDAT (io), 38 VDD (power), 39 RA7/OSC1/CKLIN (io), 40 RA6/OSC2/CLKOUT (io), 41 VSS (power), 42 RB6/ICSPLCK/ICDCLK (io), 43 RB5/AN22/T1G/T3CKI (io), 44 RB4/AN21/T3CKI (io), 45 RB3/AN20 (io), 46 RB2/AN19 (io), 47 RB1/AN18 (io), 48 RB0/AN17/INT (io), 49 ~{{SS2}/RD7} (io), 50 SCK2/SCL2/RD6 (io), 51 SDI2/SDA2/RD5 (io), 52 SDO2/RD4 (io), 53 AN26/RD3 (io), 54 AN25/RD2 (io), 55 T5CKI/AN24/RD1 (io), 56 VSS (power), 57 VDD (power), 58 AN23/RD0 (io), 59 CCP2/RE7 (io), 60 CCP6/RE6 (io), 61 CCP7/RE5 (io), 62 CCP8/RE4 (io), 63 CCP9/RE3 (io), 64 CCP10/AN29/RE2 (io)

## PIC16F1526-IPT
designator *  value PIC16F1526-IPT
ki_keywords: FLASH-Based 8-Bit CMOS Microcontroller XLP; ki_description: PIC16F1526, 8192W FLASH, 768B SRAM, TQFP-64; ki_fp_filters: TQFP* QFN*; Supplier: http://ww1.microchip.com/downloads/en/DeviceDoc/41458B.pdf
pins: 1 AN28/RE1 (io), 2 AN27/RE0 (io), 3 CCP3/RG0 (io), 4 TX2/CK2/AN15/RG1 (io), 5 RX2/DT2/AN14/RG2 (io), 6 CCP4/RG3 (io), 7 Vpp/~{{MCLR}/RG5} (in), 8 CCP5/T5G/AN12/RG4 (io), 9 VSS (power), 10 VDD (power), 11 ~{{SS1}/AN5/RF7} (io), 12 AN11/RF6 (io), 13 AN10/RF5 (io), 14 AN9/RF4 (io), 15 AN8/RF3 (io), 16 AN7/RF2 (io), 17 AN6/RF1 (io), 18 VCAP/AN16/RF0 (io), 19 AVDD (power), 20 AVSS (power), 21 RA3/AN3/Vref+ (io), 22 RA2/AN2 (io), 23 RA1/AN1 (io), 24 RA0/AN0 (io), 25 VSS (power), 26 VDD (power), 27 RA5/AN4/T3G (io), 28 RA4/T0CKI (io), 29 RC1/SOSCI/CCP2 (io), 30 RC0/SOSCO/T1CKI (io), 31 RC6/TX1/CK1 (io), 32 RC7/RX1/DT1 (io), 33 RC2/CCP1 (io), 34 RC3/SCK1/SCL1 (io), 35 RC4/SDI1/SDA1 (io), 36 RC5/SDO1 (io), 37 RB7/ICSPDAT/ISCDAT (io), 38 VDD (power), 39 RA7/OSC1/CKLIN (io), 40 RA6/OSC2/CLKOUT (io), 41 VSS (power), 42 RB6/ICSPLCK/ICDCLK (io), 43 RB5/AN22/T1G/T3CKI (io), 44 RB4/AN21/T3CKI (io), 45 RB3/AN20 (io), 46 RB2/AN19 (io), 47 RB1/AN18 (io), 48 RB0/AN17/INT (io), 49 ~{{SS2}/RD7} (io), 50 SCK2/SCL2/RD6 (io), 51 SDI2/SDA2/RD5 (io), 52 SDO2/RD4 (io), 53 AN26/RD3 (io), 54 AN25/RD2 (io), 55 T5CKI/AN24/RD1 (io), 56 VSS (power), 57 VDD (power), 58 AN23/RD0 (io), 59 CCP2/RE7 (io), 60 CCP6/RE6 (io), 61 CCP7/RE5 (io), 62 CCP8/RE4 (io), 63 CCP9/RE3 (io), 64 CCP10/AN29/RE2 (io)

## PIC16F1527-IMR
designator *  value PIC16F1527-IMR
ki_keywords: FLASH-Based 8-Bit CMOS Microcontroller XLP; ki_description: PIC16F1527, 16384W FLASH, 1536B SRAM, UQFN-64; ki_fp_filters: TQFP* QFN*; Supplier: http://ww1.microchip.com/downloads/en/DeviceDoc/41458B.pdf
pins: 1 AN28/RE1 (io), 2 AN27/RE0 (io), 3 CCP3/RG0 (io), 4 TX2/CK2/AN15/RG1 (io), 5 RX2/DT2/AN14/RG2 (io), 6 CCP4/RG3 (io), 7 Vpp/~{{MCLR}/RG5} (in), 8 CCP5/T5G/AN12/RG4 (io), 9 VSS (power), 10 VDD (power), 11 ~{{SS1}/AN5/RF7} (io), 12 AN11/RF6 (io), 13 AN10/RF5 (io), 14 AN9/RF4 (io), 15 AN8/RF3 (io), 16 AN7/RF2 (io), 17 AN6/RF1 (io), 18 VCAP/AN16/RF0 (io), 19 AVDD (power), 20 AVSS (power), 21 RA3/AN3/Vref+ (io), 22 RA2/AN2 (io), 23 RA1/AN1 (io), 24 RA0/AN0 (io), 25 VSS (power), 26 VDD (power), 27 RA5/AN4/T3G (io), 28 RA4/T0CKI (io), 29 RC1/SOSCI/CCP2 (io), 30 RC0/SOSCO/T1CKI (io), 31 RC6/TX1/CK1 (io), 32 RC7/RX1/DT1 (io), 33 RC2/CCP1 (io), 34 RC3/SCK1/SCL1 (io), 35 RC4/SDI1/SDA1 (io), 36 RC5/SDO1 (io), 37 RB7/ICSPDAT/ISCDAT (io), 38 VDD (power), 39 RA7/OSC1/CKLIN (io), 40 RA6/OSC2/CLKOUT (io), 41 VSS (power), 42 RB6/ICSPLCK/ICDCLK (io), 43 RB5/AN22/T1G/T3CKI (io), 44 RB4/AN21/T3CKI (io), 45 RB3/AN20 (io), 46 RB2/AN19 (io), 47 RB1/AN18 (io), 48 RB0/AN17/INT (io), 49 ~{{SS2}/RD7} (io), 50 SCK2/SCL2/RD6 (io), 51 SDI2/SDA2/RD5 (io), 52 SDO2/RD4 (io), 53 AN26/RD3 (io), 54 AN25/RD2 (io), 55 T5CKI/AN24/RD1 (io), 56 VSS (power), 57 VDD (power), 58 AN23/RD0 (io), 59 CCP2/RE7 (io), 60 CCP6/RE6 (io), 61 CCP7/RE5 (io), 62 CCP8/RE4 (io), 63 CCP9/RE3 (io), 64 CCP10/AN29/RE2 (io)

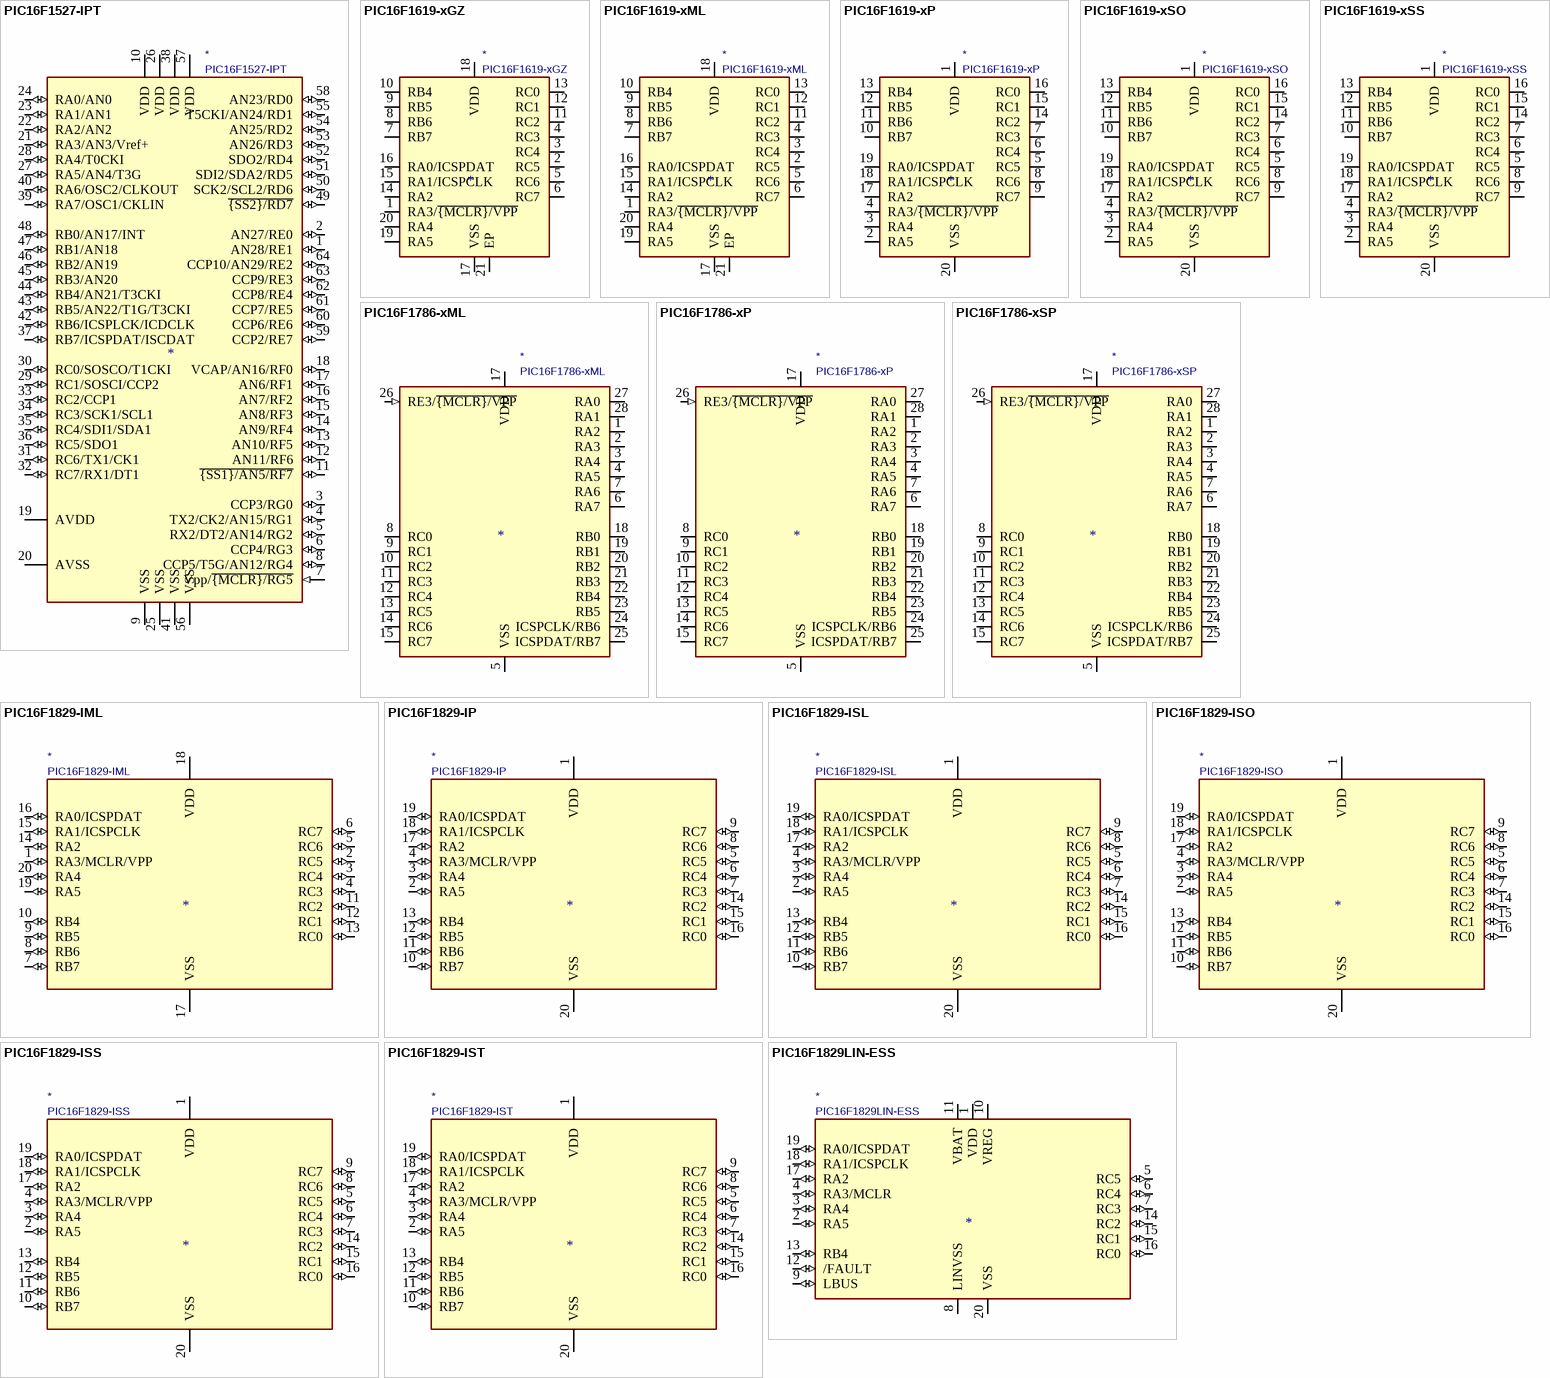
[diagram p12: symbols PIC16F1527-IPT to PIC16F1829LIN-ESS]

## PIC16F1527-IPT
designator *  value PIC16F1527-IPT
ki_keywords: FLASH-Based 8-Bit CMOS Microcontroller XLP; ki_description: PIC16F1527, 16384W FLASH, 1536B SRAM, TQFP-64; ki_fp_filters: TQFP* QFN*; Supplier: http://ww1.microchip.com/downloads/en/DeviceDoc/41458B.pdf
pins: 1 AN28/RE1 (io), 2 AN27/RE0 (io), 3 CCP3/RG0 (io), 4 TX2/CK2/AN15/RG1 (io), 5 RX2/DT2/AN14/RG2 (io), 6 CCP4/RG3 (io), 7 Vpp/~{{MCLR}/RG5} (in), 8 CCP5/T5G/AN12/RG4 (io), 9 VSS (power), 10 VDD (power), 11 ~{{SS1}/AN5/RF7} (io), 12 AN11/RF6 (io), 13 AN10/RF5 (io), 14 AN9/RF4 (io), 15 AN8/RF3 (io), 16 AN7/RF2 (io), 17 AN6/RF1 (io), 18 VCAP/AN16/RF0 (io), 19 AVDD (power), 20 AVSS (power), 21 RA3/AN3/Vref+ (io), 22 RA2/AN2 (io), 23 RA1/AN1 (io), 24 RA0/AN0 (io), 25 VSS (power), 26 VDD (power), 27 RA5/AN4/T3G (io), 28 RA4/T0CKI (io), 29 RC1/SOSCI/CCP2 (io), 30 RC0/SOSCO/T1CKI (io), 31 RC6/TX1/CK1 (io), 32 RC7/RX1/DT1 (io), 33 RC2/CCP1 (io), 34 RC3/SCK1/SCL1 (io), 35 RC4/SDI1/SDA1 (io), 36 RC5/SDO1 (io), 37 RB7/ICSPDAT/ISCDAT (io), 38 VDD (power), 39 RA7/OSC1/CKLIN (io), 40 RA6/OSC2/CLKOUT (io), 41 VSS (power), 42 RB6/ICSPLCK/ICDCLK (io), 43 RB5/AN22/T1G/T3CKI (io), 44 RB4/AN21/T3CKI (io), 45 RB3/AN20 (io), 46 RB2/AN19 (io), 47 RB1/AN18 (io), 48 RB0/AN17/INT (io), 49 ~{{SS2}/RD7} (io), 50 SCK2/SCL2/RD6 (io), 51 SDI2/SDA2/RD5 (io), 52 SDO2/RD4 (io), 53 AN26/RD3 (io), 54 AN25/RD2 (io), 55 T5CKI/AN24/RD1 (io), 56 VSS (power), 57 VDD (power), 58 AN23/RD0 (io), 59 CCP2/RE7 (io), 60 CCP6/RE6 (io), 61 CCP7/RE5 (io), 62 CCP8/RE4 (io), 63 CCP9/RE3 (io), 64 CCP10/AN29/RE2 (io)

## PIC16F1619-xGZ
designator *  value PIC16F1619-xGZ
ki_keywords: Flash-Based 8-Bit CMOS Microcontroller Low Power; ki_description: 8-bit Flash MCU, 32MHz, 14KB Flash, 1KB RAM, 1K High Endurance Flash (EEPROM), UQFN-20; ki_fp_filters: UQFN*1EP*4x4mm*P0.5mm*; Footprint: Package_DFN_QFN:UQFN-20-1EP_4x4mm_P0.5mm_EP2.8x2.8mm; Supplier: http://ww1.microchip.com/downloads/en/DeviceDoc/40001770D.pdf
footprint UQFN-20-1EP_4x4mm_P0.5mm_EP2.8x2.8mm
pins: 1 RA3/~{{MCLR}/VPP} (io), 2 RC5 (io), 3 RC4 (io), 4 RC3 (io), 5 RC6 (io), 6 RC7 (io), 7 RB7 (io), 8 RB6 (io), 9 RB5 (io), 10 RB4 (io), 11 RC2 (io), 12 RC1 (io), 13 RC0 (io), 14 RA2 (io), 15 RA1/ICSPCLK (io), 16 RA0/ICSPDAT (io), 17 VSS (power), 18 VDD (power), 19 RA5 (io), 20 RA4 (io), 21 EP

## PIC16F1619-xML
designator *  value PIC16F1619-xML
ki_keywords: Flash-Based 8-Bit CMOS Microcontroller Low Power; ki_description: 8-bit Flash MCU, 32MHz, 14KB Flash, 1KB RAM, 1K High Endurance Flash (EEPROM), QFN-20; ki_fp_filters: QFN*1EP*4x4mm*P0.5mm*; Footprint: Package_DFN_QFN:QFN-20-1EP_4x4mm_P0.5mm_EP2.5x2.5mm; Supplier: http://ww1.microchip.com/downloads/en/DeviceDoc/40001770D.pdf
footprint QFN-20-1EP_4x4mm_P0.5mm_EP2.5x2.5mm
pins: 1 RA3/~{{MCLR}/VPP} (io), 2 RC5 (io), 3 RC4 (io), 4 RC3 (io), 5 RC6 (io), 6 RC7 (io), 7 RB7 (io), 8 RB6 (io), 9 RB5 (io), 10 RB4 (io), 11 RC2 (io), 12 RC1 (io), 13 RC0 (io), 14 RA2 (io), 15 RA1/ICSPCLK (io), 16 RA0/ICSPDAT (io), 17 VSS (power), 18 VDD (power), 19 RA5 (io), 20 RA4 (io), 21 EP

## PIC16F1619-xP
designator *  value PIC16F1619-xP
ki_keywords: Flash-Based 8-Bit CMOS Microcontroller Low Power; ki_description: 8-bit Flash MCU, 32MHz, 14KB Flash, 1KB RAM, 1K High Endurance Flash (EEPROM), PDIP-20; ki_fp_filters: DIP*W7.62mm*; Footprint: Package_DIP:DIP-20_W7.62mm; Supplier: http://ww1.microchip.com/downloads/en/DeviceDoc/40001770D.pdf
footprint DIP-20_W7.62mm
pins: 1 VDD (power), 2 RA5 (io), 3 RA4 (io), 4 RA3/~{{MCLR}/VPP} (io), 5 RC5 (io), 6 RC4 (io), 7 RC3 (io), 8 RC6 (io), 9 RC7 (io), 10 RB7 (io), 11 RB6 (io), 12 RB5 (io), 13 RB4 (io), 14 RC2 (io), 15 RC1 (io), 16 RC0 (io), 17 RA2 (io), 18 RA1/ICSPCLK (io), 19 RA0/ICSPDAT (io), 20 VSS (power)

## PIC16F1619-xSO
designator *  value PIC16F1619-xSO
ki_keywords: Flash-Based 8-Bit CMOS Microcontroller Low Power; ki_description: 8-bit Flash MCU, 32MHz, 14KB Flash, 1KB RAM, 1K High Endurance Flash (EEPROM), SOIC-20; ki_fp_filters: SOIC*7.5x12.8mm*P1.27mm*; Footprint: Package_SO:SOIC-20W_7.5x12.8mm_P1.27mm; Supplier: http://ww1.microchip.com/downloads/en/DeviceDoc/40001770D.pdf
footprint SOIC-20W_7.5x12.8mm_P1.27mm
pins: 1 VDD (power), 2 RA5 (io), 3 RA4 (io), 4 RA3/~{{MCLR}/VPP} (io), 5 RC5 (io), 6 RC4 (io), 7 RC3 (io), 8 RC6 (io), 9 RC7 (io), 10 RB7 (io), 11 RB6 (io), 12 RB5 (io), 13 RB4 (io), 14 RC2 (io), 15 RC1 (io), 16 RC0 (io), 17 RA2 (io), 18 RA1/ICSPCLK (io), 19 RA0/ICSPDAT (io), 20 VSS (power)

## PIC16F1619-xSS
designator *  value PIC16F1619-xSS
ki_keywords: Flash-Based 8-Bit CMOS Microcontroller Low Power; ki_description: 8-bit Flash MCU, 32MHz, 14KB Flash, 1KB RAM, 1K High Endurance Flash (EEPROM), SSOP-20; ki_fp_filters: SSOP*5.3x7.2mm*P0.65mm*; Footprint: Package_SO:SSOP-20_5.3x7.2mm_P0.65mm; Supplier: http://ww1.microchip.com/downloads/en/DeviceDoc/40001770D.pdf
footprint SSOP-20_5.3x7.2mm_P0.65mm
pins: 1 VDD (power), 2 RA5 (io), 3 RA4 (io), 4 RA3/~{{MCLR}/VPP} (io), 5 RC5 (io), 6 RC4 (io), 7 RC3 (io), 8 RC6 (io), 9 RC7 (io), 10 RB7 (io), 11 RB6 (io), 12 RB5 (io), 13 RB4 (io), 14 RC2 (io), 15 RC1 (io), 16 RC0 (io), 17 RA2 (io), 18 RA1/ICSPCLK (io), 19 RA0/ICSPDAT (io), 20 VSS (power)

## PIC16F1786-xML
designator *  value PIC16F1786-xML
ki_keywords: FLASH-Based 8-Bit CMOS Microcontroller XLP; ki_description: 8-bit Flash MCU, 32MHz, 16KB Flash, 1KB RAM, 256B EEPROM, QFN-28; ki_fp_filters: QFN*1EP*6x6mm*P0.65mm*; Footprint: Package_DFN_QFN:QFN-28-1EP_6x6mm_P0.65mm_EP4.25x4.25mm; Supplier: http://ww1.microchip.com/downloads/en/DeviceDoc/40001637C.pdf
footprint QFN-28-1EP_6x6mm_P0.65mm_EP4.25x4.25mm
pins: 1 RA2 (io), 2 RA3 (io), 3 RA4 (io), 4 RA5 (io), 5 VSS (power), 6 RA7 (io), 7 RA6 (io), 8 RC0 (io), 9 RC1 (io), 10 RC2 (io), 11 RC3 (io), 12 RC4 (io), 13 RC5 (io), 14 RC6 (io), 15 RC7 (io), 16 VSS hidden, 17 VDD (power), 18 RB0 (io), 19 RB1 (io), 20 RB2 (io), 21 RB3 (io), 22 RB4 (io), 23 RB5 (io), 24 ICSPCLK/RB6 (io), 25 ICSPDAT/RB7 (io), 26 RE3/~{{MCLR}/VPP} (in), 27 RA0 (io), 28 RA1 (io)

## PIC16F1786-xP
designator *  value PIC16F1786-xP
ki_keywords: FLASH-Based 8-Bit CMOS Microcontroller XLP; ki_description: 8-bit Flash MCU, 32MHz, 16KB Flash, 1KB RAM, 256B EEPROM, PDIP-28; ki_fp_filters: DIP*W15.24mm*; Footprint: Package_DIP:DIP-28_W15.24mm; Supplier: http://ww1.microchip.com/downloads/en/DeviceDoc/40001637C.pdf
footprint DIP-28_W15.24mm
pins: 1 RA2 (io), 2 RA3 (io), 3 RA4 (io), 4 RA5 (io), 5 VSS (power), 6 RA7 (io), 7 RA6 (io), 8 RC0 (io), 9 RC1 (io), 10 RC2 (io), 11 RC3 (io), 12 RC4 (io), 13 RC5 (io), 14 RC6 (io), 15 RC7 (io), 16 VSS hidden, 17 VDD (power), 18 RB0 (io), 19 RB1 (io), 20 RB2 (io), 21 RB3 (io), 22 RB4 (io), 23 RB5 (io), 24 ICSPCLK/RB6 (io), 25 ICSPDAT/RB7 (io), 26 RE3/~{{MCLR}/VPP} (in), 27 RA0 (io), 28 RA1 (io)

## PIC16F1786-xSP
designator *  value PIC16F1786-xSP
ki_keywords: FLASH-Based 8-Bit CMOS Microcontroller XLP; ki_description: 8-bit Flash MCU, 32MHz, 16KB Flash, 1KB RAM, 256B EEPROM, SPDIP-28; ki_fp_filters: DIP*W7.62mm*; Footprint: Package_DIP:DIP-28_W7.62mm; Supplier: http://ww1.microchip.com/downloads/en/DeviceDoc/40001637C.pdf
footprint DIP-28_W7.62mm
pins: 1 RA2 (io), 2 RA3 (io), 3 RA4 (io), 4 RA5 (io), 5 VSS (power), 6 RA7 (io), 7 RA6 (io), 8 RC0 (io), 9 RC1 (io), 10 RC2 (io), 11 RC3 (io), 12 RC4 (io), 13 RC5 (io), 14 RC6 (io), 15 RC7 (io), 16 VSS hidden, 17 VDD (power), 18 RB0 (io), 19 RB1 (io), 20 RB2 (io), 21 RB3 (io), 22 RB4 (io), 23 RB5 (io), 24 ICSPCLK/RB6 (io), 25 ICSPDAT/RB7 (io), 26 RE3/~{{MCLR}/VPP} (in), 27 RA0 (io), 28 RA1 (io)

## PIC16F1829-IML
designator *  value PIC16F1829-IML
ki_keywords: Flash-Based 8-Bit CMOS Microcontroller Low Power; ki_description: Flash-Based, 8-Bit CMOS Microcontrollers, QFN; ki_fp_filters: QFN*4x4mm*P0.5mm*; Footprint: Package_DFN_QFN:QFN-20-1EP_4x4mm_P0.5mm_EP2.5x2.5mm; Supplier: http://ww1.microchip.com/downloads/en/DeviceDoc/41440C.pdf
footprint QFN-20-1EP_4x4mm_P0.5mm_EP2.5x2.5mm
pins: 1 RA3/MCLR/VPP (io), 2 RC5 (io), 3 RC4 (io), 4 RC3 (io), 5 RC6 (io), 6 RC7 (io), 7 RB7 (io), 8 RB6 (io), 9 RB5 (io), 10 RB4 (io), 11 RC2 (io), 12 RC1 (io), 13 RC0 (io), 14 RA2 (io), 15 RA1/ICSPCLK (io), 16 RA0/ICSPDAT (io), 17 VSS (power), 18 VDD (power), 19 RA5 (io), 20 RA4 (io)

## PIC16F1829-IP
designator *  value PIC16F1829-IP
ki_keywords: Flash-Based 8-Bit CMOS Microcontroller Low Power; ki_description: Flash-Based, 8-Bit CMOS Microcontrollers, PDIP; ki_fp_filters: DIP*W7.62mm* SOIC*3.9x8.7mm*P1.27mm* TSSOP*4.4x5mm*P0.65mm*; Supplier: http://ww1.microchip.com/downloads/en/DeviceDoc/41440C.pdf
pins: 1 VDD (power), 2 RA5 (io), 3 RA4 (io), 4 RA3/MCLR/VPP (io), 5 RC5 (io), 6 RC4 (io), 7 RC3 (io), 8 RC6 (io), 9 RC7 (io), 10 RB7 (io), 11 RB6 (io), 12 RB5 (io), 13 RB4 (io), 14 RC2 (io), 15 RC1 (io), 16 RC0 (io), 17 RA2 (io), 18 RA1/ICSPCLK (io), 19 RA0/ICSPDAT (io), 20 VSS (power)

## PIC16F1829-ISL
designator *  value PIC16F1829-ISL
ki_keywords: Flash-Based 8-Bit CMOS Microcontroller Low Power; ki_description: Flash-Based, 8-Bit CMOS Microcontrollers, SOIC; ki_fp_filters: DIP*W7.62mm* SOIC*3.9x8.7mm*P1.27mm* TSSOP*4.4x5mm*P0.65mm*; Supplier: http://ww1.microchip.com/downloads/en/DeviceDoc/41440C.pdf
pins: 1 VDD (power), 2 RA5 (io), 3 RA4 (io), 4 RA3/MCLR/VPP (io), 5 RC5 (io), 6 RC4 (io), 7 RC3 (io), 8 RC6 (io), 9 RC7 (io), 10 RB7 (io), 11 RB6 (io), 12 RB5 (io), 13 RB4 (io), 14 RC2 (io), 15 RC1 (io), 16 RC0 (io), 17 RA2 (io), 18 RA1/ICSPCLK (io), 19 RA0/ICSPDAT (io), 20 VSS (power)

## PIC16F1829-ISO
designator *  value PIC16F1829-ISO
ki_keywords: Flash-Based 8-Bit CMOS Microcontroller Low Power; ki_description: Flash-Based, 8-Bit CMOS Microcontrollers, SOIC; ki_fp_filters: DIP*W7.62mm* SOIC*3.9x8.7mm*P1.27mm* TSSOP*4.4x5mm*P0.65mm*; Supplier: http://ww1.microchip.com/downloads/en/DeviceDoc/41440C.pdf
pins: 1 VDD (power), 2 RA5 (io), 3 RA4 (io), 4 RA3/MCLR/VPP (io), 5 RC5 (io), 6 RC4 (io), 7 RC3 (io), 8 RC6 (io), 9 RC7 (io), 10 RB7 (io), 11 RB6 (io), 12 RB5 (io), 13 RB4 (io), 14 RC2 (io), 15 RC1 (io), 16 RC0 (io), 17 RA2 (io), 18 RA1/ICSPCLK (io), 19 RA0/ICSPDAT (io), 20 VSS (power)

## PIC16F1829-ISS
designator *  value PIC16F1829-ISS
ki_keywords: Flash-Based 8-Bit CMOS Microcontroller Low Power; ki_description: Flash-Based, 8-Bit CMOS Microcontrollers, SSOP; ki_fp_filters: DIP*W7.62mm* SOIC*3.9x8.7mm*P1.27mm* TSSOP*4.4x5mm*P0.65mm*; Supplier: http://ww1.microchip.com/downloads/en/DeviceDoc/41440C.pdf
pins: 1 VDD (power), 2 RA5 (io), 3 RA4 (io), 4 RA3/MCLR/VPP (io), 5 RC5 (io), 6 RC4 (io), 7 RC3 (io), 8 RC6 (io), 9 RC7 (io), 10 RB7 (io), 11 RB6 (io), 12 RB5 (io), 13 RB4 (io), 14 RC2 (io), 15 RC1 (io), 16 RC0 (io), 17 RA2 (io), 18 RA1/ICSPCLK (io), 19 RA0/ICSPDAT (io), 20 VSS (power)

## PIC16F1829-IST
designator *  value PIC16F1829-IST
ki_keywords: Flash-Based 8-Bit CMOS Microcontroller Low Power; ki_description: Flash-Based, 8-Bit CMOS Microcontrollers, TSSOP; ki_fp_filters: DIP*W7.62mm* SOIC*3.9x8.7mm*P1.27mm* TSSOP*4.4x5mm*P0.65mm*; Supplier: http://ww1.microchip.com/downloads/en/DeviceDoc/41440C.pdf
pins: 1 VDD (power), 2 RA5 (io), 3 RA4 (io), 4 RA3/MCLR/VPP (io), 5 RC5 (io), 6 RC4 (io), 7 RC3 (io), 8 RC6 (io), 9 RC7 (io), 10 RB7 (io), 11 RB6 (io), 12 RB5 (io), 13 RB4 (io), 14 RC2 (io), 15 RC1 (io), 16 RC0 (io), 17 RA2 (io), 18 RA1/ICSPCLK (io), 19 RA0/ICSPDAT (io), 20 VSS (power)

## PIC16F1829LIN-ESS
designator *  value PIC16F1829LIN-ESS
ki_keywords: Flash-Based 8-Bit CMOS microcontroller regulator LIN; ki_description: Flash-Based, 8-Bit CMOS Microcontrollers with integrated voltage regulator and LIN transceiver; ki_fp_filters: SSOP*5.3x7.2mm*P0.65mm*; Footprint: Package_SO:SSOP-20_5.3x7.2mm_P0.65mm; Supplier: http://ww1.microchip.com/downloads/en/DeviceDoc/41673A.pdf
footprint SSOP-20_5.3x7.2mm_P0.65mm
pins: 1 VDD (power), 2 RA5 (io), 3 RA4 (io), 4 RA3/MCLR (io), 5 RC5 (io), 6 RC4 (io), 7 RC3 (io), 8 LINVSS (power), 9 LBUS (io), 10 VREG (power), 11 VBAT (power), 12 /FAULT (io), 13 RB4 (io), 14 RC2 (io), 15 RC1 (io), 16 RC0 (io), 17 RA2 (io), 18 RA1/ICSPCLK (io), 19 RA0/ICSPDAT (io), 20 VSS (power)

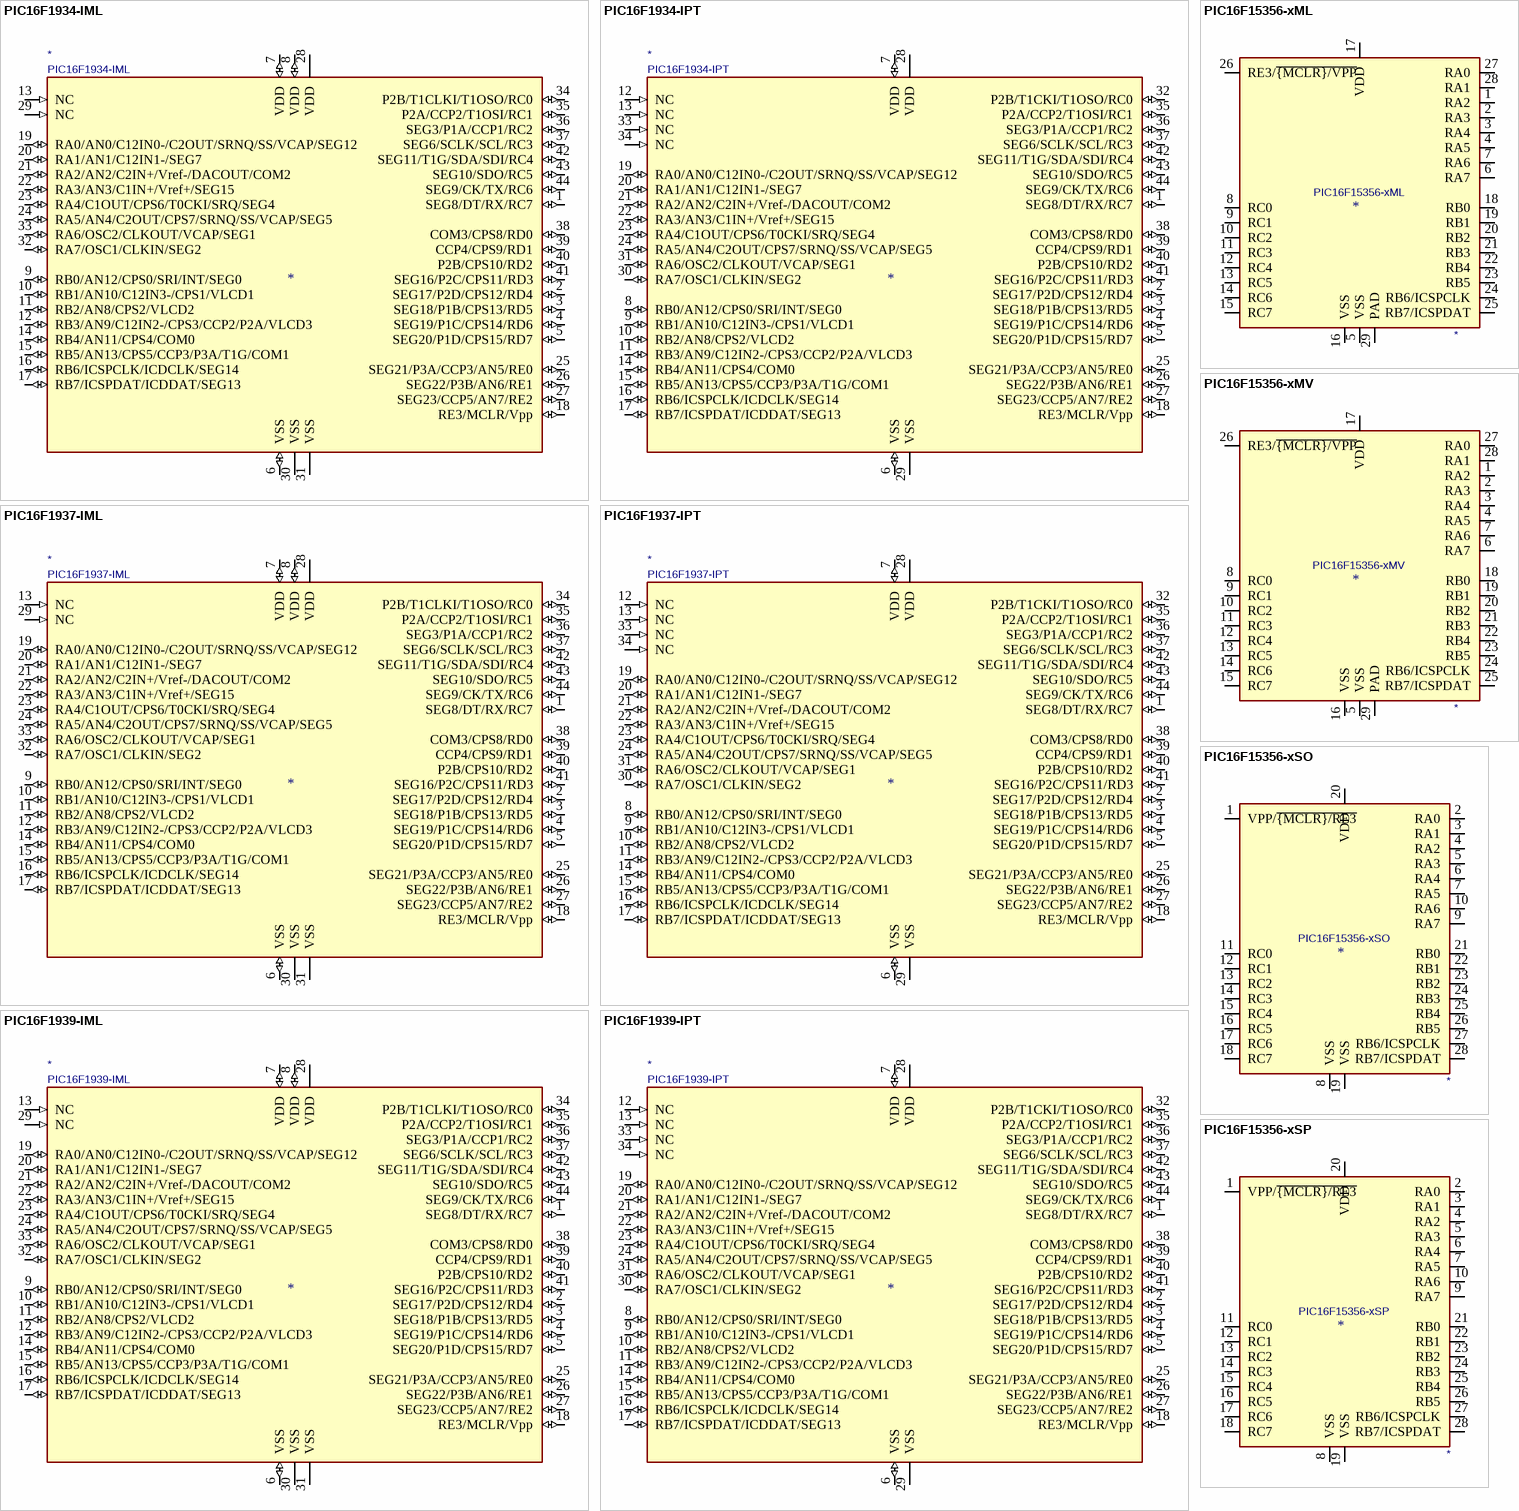
[diagram p13: symbols PIC16F1934-IML to PIC16F15356-xSP]

## PIC16F1934-IML
designator *  value PIC16F1934-IML
ki_description: PIC16F193XLF193X - Flash-Based, 8-Bit CMOS Microcontrollers, QFN-44; ki_fp_filters: MLF*; Supplier: http://ww1.microchip.com/downloads/en/DeviceDoc/41364E.pdf
pins: 1 SEG8/DT/RX/RC7 (io), 2 SEG17/P2D/CPS12/RD4 (io), 3 SEG18/P1B/CPS13/RD5 (io), 4 SEG19/P1C/CPS14/RD6 (io), 5 SEG20/P1D/CPS15/RD7 (io), 6 VSS (io), 7 VDD (io), 8 VDD (io), 9 RB0/AN12/CPS0/SRI/INT/SEG0 (io), 10 RB1/AN10/C12IN3-/CPS1/VLCD1 (io), 11 RB2/AN8/CPS2/VLCD2 (io), 12 RB3/AN9/C12IN2-/CPS3/CCP2/P2A/VLCD3 (io), 13 NC (in), 14 RB4/AN11/CPS4/COM0 (io), 15 RB5/AN13/CPS5/CCP3/P3A/T1G/COM1 (io), 16 RB6/ICSPCLK/ICDCLK/SEG14 (io), 17 RB7/ICSPDAT/ICDDAT/SEG13 (io), 18 RE3/MCLR/Vpp (io), 19 RA0/AN0/C12IN0-/C2OUT/SRNQ/SS/VCAP/SEG12 (io), 20 RA1/AN1/C12IN1-/SEG7 (io), 21 RA2/AN2/C2IN+/Vref-/DACOUT/COM2 (io), 22 RA3/AN3/C1IN+/Vref+/SEG15 (io), 23 RA4/C1OUT/CPS6/T0CKI/SRQ/SEG4 (io), 24 RA5/AN4/C2OUT/CPS7/SRNQ/SS/VCAP/SEG5 (io), 25 SEG21/P3A/CCP3/AN5/RE0 (io), 26 SEG22/P3B/AN6/RE1 (io), 27 SEG23/CCP5/AN7/RE2 (io), 28 VDD (power), 29 NC (in), 30 VSS (power), 31 VSS (power), 32 RA7/OSC1/CLKIN/SEG2 (io), 33 RA6/OSC2/CLKOUT/VCAP/SEG1 (io), 34 P2B/T1CLKI/T1OSO/RC0 (io), 35 P2A/CCP2/T1OSI/RC1 (io), 36 SEG3/P1A/CCP1/RC2 (io), 37 SEG6/SCLK/SCL/RC3 (io), 38 COM3/CPS8/RD0 (io), 39 CCP4/CPS9/RD1 (io), 40 P2B/CPS10/RD2 (io), 41 SEG16/P2C/CPS11/RD3 (io), 42 SEG11/T1G/SDA/SDI/RC4 (io), 43 SEG10/SDO/RC5 (io), 44 SEG9/CK/TX/RC6 (io)

## PIC16F1934-IPT
designator *  value PIC16F1934-IPT
ki_description: PIC16F193XLF193X - Flash-Based, 8-Bit CMOS Microcontrollers, TQFP-44; ki_fp_filters: TQFP*; Supplier: http://ww1.microchip.com/downloads/en/DeviceDoc/41364E.pdf
pins: 1 SEG8/DT/RX/RC7 (io), 2 SEG17/P2D/CPS12/RD4 (io), 3 SEG18/P1B/CPS13/RD5 (io), 4 SEG19/P1C/CPS14/RD6 (io), 5 SEG20/P1D/CPS15/RD7 (io), 6 VSS (io), 7 VDD (io), 8 RB0/AN12/CPS0/SRI/INT/SEG0 (io), 9 RB1/AN10/C12IN3-/CPS1/VLCD1 (io), 10 RB2/AN8/CPS2/VLCD2 (io), 11 RB3/AN9/C12IN2-/CPS3/CCP2/P2A/VLCD3 (io), 12 NC (in), 13 NC (in), 14 RB4/AN11/CPS4/COM0 (io), 15 RB5/AN13/CPS5/CCP3/P3A/T1G/COM1 (io), 16 RB6/ICSPCLK/ICDCLK/SEG14 (io), 17 RB7/ICSPDAT/ICDDAT/SEG13 (io), 18 RE3/MCLR/Vpp (io), 19 RA0/AN0/C12IN0-/C2OUT/SRNQ/SS/VCAP/SEG12 (io), 20 RA1/AN1/C12IN1-/SEG7 (io), 21 RA2/AN2/C2IN+/Vref-/DACOUT/COM2 (io), 22 RA3/AN3/C1IN+/Vref+/SEG15 (io), 23 RA4/C1OUT/CPS6/T0CKI/SRQ/SEG4 (io), 24 RA5/AN4/C2OUT/CPS7/SRNQ/SS/VCAP/SEG5 (io), 25 SEG21/P3A/CCP3/AN5/RE0 (io), 26 SEG22/P3B/AN6/RE1 (io), 27 SEG23/CCP5/AN7/RE2 (io), 28 VDD (power), 29 VSS (power), 30 RA7/OSC1/CLKIN/SEG2 (io), 31 RA6/OSC2/CLKOUT/VCAP/SEG1 (io), 32 P2B/T1CKI/T1OSO/RC0 (io), 33 NC (in), 34 NC (in), 35 P2A/CCP2/T1OSI/RC1 (io), 36 SEG3/P1A/CCP1/RC2 (io), 37 SEG6/SCLK/SCL/RC3 (io), 38 COM3/CPS8/RD0 (io), 39 CCP4/CPS9/RD1 (io), 40 P2B/CPS10/RD2 (io), 41 SEG16/P2C/CPS11/RD3 (io), 42 SEG11/T1G/SDA/SDI/RC4 (io), 43 SEG10/SDO/RC5 (io), 44 SEG9/CK/TX/RC6 (io)

## PIC16F1937-IML
designator *  value PIC16F1937-IML
ki_description: PIC16F193XLF193X - Flash-Based, 8-Bit CMOS Microcontrollers, QFN-44; ki_fp_filters: MLF*; Supplier: http://ww1.microchip.com/downloads/en/DeviceDoc/41364E.pdf
pins: 1 SEG8/DT/RX/RC7 (io), 2 SEG17/P2D/CPS12/RD4 (io), 3 SEG18/P1B/CPS13/RD5 (io), 4 SEG19/P1C/CPS14/RD6 (io), 5 SEG20/P1D/CPS15/RD7 (io), 6 VSS (io), 7 VDD (io), 8 VDD (io), 9 RB0/AN12/CPS0/SRI/INT/SEG0 (io), 10 RB1/AN10/C12IN3-/CPS1/VLCD1 (io), 11 RB2/AN8/CPS2/VLCD2 (io), 12 RB3/AN9/C12IN2-/CPS3/CCP2/P2A/VLCD3 (io), 13 NC (in), 14 RB4/AN11/CPS4/COM0 (io), 15 RB5/AN13/CPS5/CCP3/P3A/T1G/COM1 (io), 16 RB6/ICSPCLK/ICDCLK/SEG14 (io), 17 RB7/ICSPDAT/ICDDAT/SEG13 (io), 18 RE3/MCLR/Vpp (io), 19 RA0/AN0/C12IN0-/C2OUT/SRNQ/SS/VCAP/SEG12 (io), 20 RA1/AN1/C12IN1-/SEG7 (io), 21 RA2/AN2/C2IN+/Vref-/DACOUT/COM2 (io), 22 RA3/AN3/C1IN+/Vref+/SEG15 (io), 23 RA4/C1OUT/CPS6/T0CKI/SRQ/SEG4 (io), 24 RA5/AN4/C2OUT/CPS7/SRNQ/SS/VCAP/SEG5 (io), 25 SEG21/P3A/CCP3/AN5/RE0 (io), 26 SEG22/P3B/AN6/RE1 (io), 27 SEG23/CCP5/AN7/RE2 (io), 28 VDD (power), 29 NC (in), 30 VSS (power), 31 VSS (power), 32 RA7/OSC1/CLKIN/SEG2 (io), 33 RA6/OSC2/CLKOUT/VCAP/SEG1 (io), 34 P2B/T1CLKI/T1OSO/RC0 (io), 35 P2A/CCP2/T1OSI/RC1 (io), 36 SEG3/P1A/CCP1/RC2 (io), 37 SEG6/SCLK/SCL/RC3 (io), 38 COM3/CPS8/RD0 (io), 39 CCP4/CPS9/RD1 (io), 40 P2B/CPS10/RD2 (io), 41 SEG16/P2C/CPS11/RD3 (io), 42 SEG11/T1G/SDA/SDI/RC4 (io), 43 SEG10/SDO/RC5 (io), 44 SEG9/CK/TX/RC6 (io)

## PIC16F1937-IPT
designator *  value PIC16F1937-IPT
ki_description: PIC16F193XLF193X - Flash-Based, 8-Bit CMOS Microcontrollers, TQFP-44; ki_fp_filters: TQFP*; Supplier: http://ww1.microchip.com/downloads/en/DeviceDoc/41364E.pdf
pins: 1 SEG8/DT/RX/RC7 (io), 2 SEG17/P2D/CPS12/RD4 (io), 3 SEG18/P1B/CPS13/RD5 (io), 4 SEG19/P1C/CPS14/RD6 (io), 5 SEG20/P1D/CPS15/RD7 (io), 6 VSS (io), 7 VDD (io), 8 RB0/AN12/CPS0/SRI/INT/SEG0 (io), 9 RB1/AN10/C12IN3-/CPS1/VLCD1 (io), 10 RB2/AN8/CPS2/VLCD2 (io), 11 RB3/AN9/C12IN2-/CPS3/CCP2/P2A/VLCD3 (io), 12 NC (in), 13 NC (in), 14 RB4/AN11/CPS4/COM0 (io), 15 RB5/AN13/CPS5/CCP3/P3A/T1G/COM1 (io), 16 RB6/ICSPCLK/ICDCLK/SEG14 (io), 17 RB7/ICSPDAT/ICDDAT/SEG13 (io), 18 RE3/MCLR/Vpp (io), 19 RA0/AN0/C12IN0-/C2OUT/SRNQ/SS/VCAP/SEG12 (io), 20 RA1/AN1/C12IN1-/SEG7 (io), 21 RA2/AN2/C2IN+/Vref-/DACOUT/COM2 (io), 22 RA3/AN3/C1IN+/Vref+/SEG15 (io), 23 RA4/C1OUT/CPS6/T0CKI/SRQ/SEG4 (io), 24 RA5/AN4/C2OUT/CPS7/SRNQ/SS/VCAP/SEG5 (io), 25 SEG21/P3A/CCP3/AN5/RE0 (io), 26 SEG22/P3B/AN6/RE1 (io), 27 SEG23/CCP5/AN7/RE2 (io), 28 VDD (power), 29 VSS (power), 30 RA7/OSC1/CLKIN/SEG2 (io), 31 RA6/OSC2/CLKOUT/VCAP/SEG1 (io), 32 P2B/T1CKI/T1OSO/RC0 (io), 33 NC (in), 34 NC (in), 35 P2A/CCP2/T1OSI/RC1 (io), 36 SEG3/P1A/CCP1/RC2 (io), 37 SEG6/SCLK/SCL/RC3 (io), 38 COM3/CPS8/RD0 (io), 39 CCP4/CPS9/RD1 (io), 40 P2B/CPS10/RD2 (io), 41 SEG16/P2C/CPS11/RD3 (io), 42 SEG11/T1G/SDA/SDI/RC4 (io), 43 SEG10/SDO/RC5 (io), 44 SEG9/CK/TX/RC6 (io)

## PIC16F1939-IML
designator *  value PIC16F1939-IML
ki_description: PIC16F193XLF193X - Flash-Based, 8-Bit CMOS Microcontrollers, QFN-44; ki_fp_filters: MLF*; Supplier: http://ww1.microchip.com/downloads/en/DeviceDoc/41364E.pdf
pins: 1 SEG8/DT/RX/RC7 (io), 2 SEG17/P2D/CPS12/RD4 (io), 3 SEG18/P1B/CPS13/RD5 (io), 4 SEG19/P1C/CPS14/RD6 (io), 5 SEG20/P1D/CPS15/RD7 (io), 6 VSS (io), 7 VDD (io), 8 VDD (io), 9 RB0/AN12/CPS0/SRI/INT/SEG0 (io), 10 RB1/AN10/C12IN3-/CPS1/VLCD1 (io), 11 RB2/AN8/CPS2/VLCD2 (io), 12 RB3/AN9/C12IN2-/CPS3/CCP2/P2A/VLCD3 (io), 13 NC (in), 14 RB4/AN11/CPS4/COM0 (io), 15 RB5/AN13/CPS5/CCP3/P3A/T1G/COM1 (io), 16 RB6/ICSPCLK/ICDCLK/SEG14 (io), 17 RB7/ICSPDAT/ICDDAT/SEG13 (io), 18 RE3/MCLR/Vpp (io), 19 RA0/AN0/C12IN0-/C2OUT/SRNQ/SS/VCAP/SEG12 (io), 20 RA1/AN1/C12IN1-/SEG7 (io), 21 RA2/AN2/C2IN+/Vref-/DACOUT/COM2 (io), 22 RA3/AN3/C1IN+/Vref+/SEG15 (io), 23 RA4/C1OUT/CPS6/T0CKI/SRQ/SEG4 (io), 24 RA5/AN4/C2OUT/CPS7/SRNQ/SS/VCAP/SEG5 (io), 25 SEG21/P3A/CCP3/AN5/RE0 (io), 26 SEG22/P3B/AN6/RE1 (io), 27 SEG23/CCP5/AN7/RE2 (io), 28 VDD (power), 29 NC (in), 30 VSS (power), 31 VSS (power), 32 RA7/OSC1/CLKIN/SEG2 (io), 33 RA6/OSC2/CLKOUT/VCAP/SEG1 (io), 34 P2B/T1CLKI/T1OSO/RC0 (io), 35 P2A/CCP2/T1OSI/RC1 (io), 36 SEG3/P1A/CCP1/RC2 (io), 37 SEG6/SCLK/SCL/RC3 (io), 38 COM3/CPS8/RD0 (io), 39 CCP4/CPS9/RD1 (io), 40 P2B/CPS10/RD2 (io), 41 SEG16/P2C/CPS11/RD3 (io), 42 SEG11/T1G/SDA/SDI/RC4 (io), 43 SEG10/SDO/RC5 (io), 44 SEG9/CK/TX/RC6 (io)

## PIC16F1939-IPT
designator *  value PIC16F1939-IPT
ki_description: PIC16F193XLF193X - Flash-Based, 8-Bit CMOS Microcontrollers, TQFP-44; ki_fp_filters: TQFP*; Supplier: http://ww1.microchip.com/downloads/en/DeviceDoc/41364E.pdf
pins: 1 SEG8/DT/RX/RC7 (io), 2 SEG17/P2D/CPS12/RD4 (io), 3 SEG18/P1B/CPS13/RD5 (io), 4 SEG19/P1C/CPS14/RD6 (io), 5 SEG20/P1D/CPS15/RD7 (io), 6 VSS (io), 7 VDD (io), 8 RB0/AN12/CPS0/SRI/INT/SEG0 (io), 9 RB1/AN10/C12IN3-/CPS1/VLCD1 (io), 10 RB2/AN8/CPS2/VLCD2 (io), 11 RB3/AN9/C12IN2-/CPS3/CCP2/P2A/VLCD3 (io), 12 NC (in), 13 NC (in), 14 RB4/AN11/CPS4/COM0 (io), 15 RB5/AN13/CPS5/CCP3/P3A/T1G/COM1 (io), 16 RB6/ICSPCLK/ICDCLK/SEG14 (io), 17 RB7/ICSPDAT/ICDDAT/SEG13 (io), 18 RE3/MCLR/Vpp (io), 19 RA0/AN0/C12IN0-/C2OUT/SRNQ/SS/VCAP/SEG12 (io), 20 RA1/AN1/C12IN1-/SEG7 (io), 21 RA2/AN2/C2IN+/Vref-/DACOUT/COM2 (io), 22 RA3/AN3/C1IN+/Vref+/SEG15 (io), 23 RA4/C1OUT/CPS6/T0CKI/SRQ/SEG4 (io), 24 RA5/AN4/C2OUT/CPS7/SRNQ/SS/VCAP/SEG5 (io), 25 SEG21/P3A/CCP3/AN5/RE0 (io), 26 SEG22/P3B/AN6/RE1 (io), 27 SEG23/CCP5/AN7/RE2 (io), 28 VDD (power), 29 VSS (power), 30 RA7/OSC1/CLKIN/SEG2 (io), 31 RA6/OSC2/CLKOUT/VCAP/SEG1 (io), 32 P2B/T1CKI/T1OSO/RC0 (io), 33 NC (in), 34 NC (in), 35 P2A/CCP2/T1OSI/RC1 (io), 36 SEG3/P1A/CCP1/RC2 (io), 37 SEG6/SCLK/SCL/RC3 (io), 38 COM3/CPS8/RD0 (io), 39 CCP4/CPS9/RD1 (io), 40 P2B/CPS10/RD2 (io), 41 SEG16/P2C/CPS11/RD3 (io), 42 SEG11/T1G/SDA/SDI/RC4 (io), 43 SEG10/SDO/RC5 (io), 44 SEG9/CK/TX/RC6 (io)

## PIC16F15356-xML
designator *  value PIC16F15356-xML
ki_keywords: FLASH-Based 8-Bit CMOS Microcontroller Low Power; ki_description: 16KW FLASH, 2048B SRAM, QFN-28(6x6mm); ki_fp_filters: QFN*6x6mm*; Footprint: Package_DFN_QFN:QFN-28-1EP_6x6mm_P0.65mm_EP4.25x4.25mm; Supplier: http://ww1.microchip.com/downloads/en/DeviceDoc/PIC16LF15356-75-76-85-86-Data%20Sheet-40001866B.pdf
footprint QFN-28-1EP_6x6mm_P0.65mm_EP4.25x4.25mm
pins: 1 RA2 (io), 2 RA3 (io), 3 RA4 (io), 4 RA5 (io), 5 VSS (power), 6 RA7 (io), 7 RA6 (io), 8 RC0 (io), 9 RC1 (io), 10 RC2 (io), 11 RC3 (io), 12 RC4 (io), 13 RC5 (io), 14 RC6 (io), 15 RC7 (io), 16 VSS (power), 17 VDD (power), 18 RB0 (io), 19 RB1 (io), 20 RB2 (io), 21 RB3 (io), 22 RB4 (io), 23 RB5 (io), 24 RB6/ICSPCLK (io), 25 RB7/ICSPDAT (io), 26 RE3/~{{MCLR}/VPP} (io), 27 RA0 (io), 28 RA1 (io), 29 PAD (power)

## PIC16F15356-xMV
designator *  value PIC16F15356-xMV
ki_keywords: FLASH-Based 8-Bit CMOS Microcontroller Low Power; ki_description: 16KW FLASH, 2048B SRAM, QFN-28(4x4mm); ki_fp_filters: QFN*4x4mm*; Footprint: Package_DFN_QFN:QFN-28-1EP_4x4mm_P0.4mm_EP2.3x2.3mm; Supplier: http://ww1.microchip.com/downloads/en/DeviceDoc/PIC16LF15356-75-76-85-86-Data%20Sheet-40001866B.pdf
footprint QFN-28-1EP_4x4mm_P0.4mm_EP2.3x2.3mm
pins: 1 RA2 (io), 2 RA3 (io), 3 RA4 (io), 4 RA5 (io), 5 VSS (power), 6 RA7 (io), 7 RA6 (io), 8 RC0 (io), 9 RC1 (io), 10 RC2 (io), 11 RC3 (io), 12 RC4 (io), 13 RC5 (io), 14 RC6 (io), 15 RC7 (io), 16 VSS (power), 17 VDD (power), 18 RB0 (io), 19 RB1 (io), 20 RB2 (io), 21 RB3 (io), 22 RB4 (io), 23 RB5 (io), 24 RB6/ICSPCLK (io), 25 RB7/ICSPDAT (io), 26 RE3/~{{MCLR}/VPP} (io), 27 RA0 (io), 28 RA1 (io), 29 PAD (power)

## PIC16F15356-xSO
designator *  value PIC16F15356-xSO
ki_keywords: FLASH-Based 8-Bit CMOS Microcontroller Low Power; ki_description: 16KW FLASH, 2048B SRAM, SOIC-28; ki_fp_filters: SOIC*.5x17.9mm*; Footprint: Package_SO:SOIC-28W_7.5x17.9mm_P1.27mm; Supplier: http://ww1.microchip.com/downloads/en/DeviceDoc/PIC16LF15356-75-76-85-86-Data%20Sheet-40001866B.pdf
footprint SOIC-28W_7.5x17.9mm_P1.27mm
pins: 1 VPP/~{{MCLR}/RE3} (io), 2 RA0 (io), 3 RA1 (io), 4 RA2 (io), 5 RA3 (io), 6 RA4 (io), 7 RA5 (io), 8 VSS (power), 9 RA7 (io), 10 RA6 (io), 11 RC0 (io), 12 RC1 (io), 13 RC2 (io), 14 RC3 (io), 15 RC4 (io), 16 RC5 (io), 17 RC6 (io), 18 RC7 (io), 19 VSS (power), 20 VDD (power), 21 RB0 (io), 22 RB1 (io), 23 RB2 (io), 24 RB3 (io), 25 RB4 (io), 26 RB5 (io), 27 RB6/ICSPCLK (io), 28 RB7/ICSPDAT (io)

## PIC16F15356-xSP
designator *  value PIC16F15356-xSP
ki_keywords: FLASH-Based 8-Bit CMOS Microcontroller Low Power; ki_description: 16KW FLASH, 2048B SRAM, DIP-28; ki_fp_filters: DIP*7.62mm*; Footprint: Package_DIP:DIP-28_W7.62mm; Supplier: http://ww1.microchip.com/downloads/en/DeviceDoc/PIC16LF15356-75-76-85-86-Data%20Sheet-40001866B.pdf
footprint DIP-28_W7.62mm
pins: 1 VPP/~{{MCLR}/RE3} (io), 2 RA0 (io), 3 RA1 (io), 4 RA2 (io), 5 RA3 (io), 6 RA4 (io), 7 RA5 (io), 8 VSS (power), 9 RA7 (io), 10 RA6 (io), 11 RC0 (io), 12 RC1 (io), 13 RC2 (io), 14 RC3 (io), 15 RC4 (io), 16 RC5 (io), 17 RC6 (io), 18 RC7 (io), 19 VSS (power), 20 VDD (power), 21 RB0 (io), 22 RB1 (io), 23 RB2 (io), 24 RB3 (io), 25 RB4 (io), 26 RB5 (io), 27 RB6/ICSPCLK (io), 28 RB7/ICSPDAT (io)

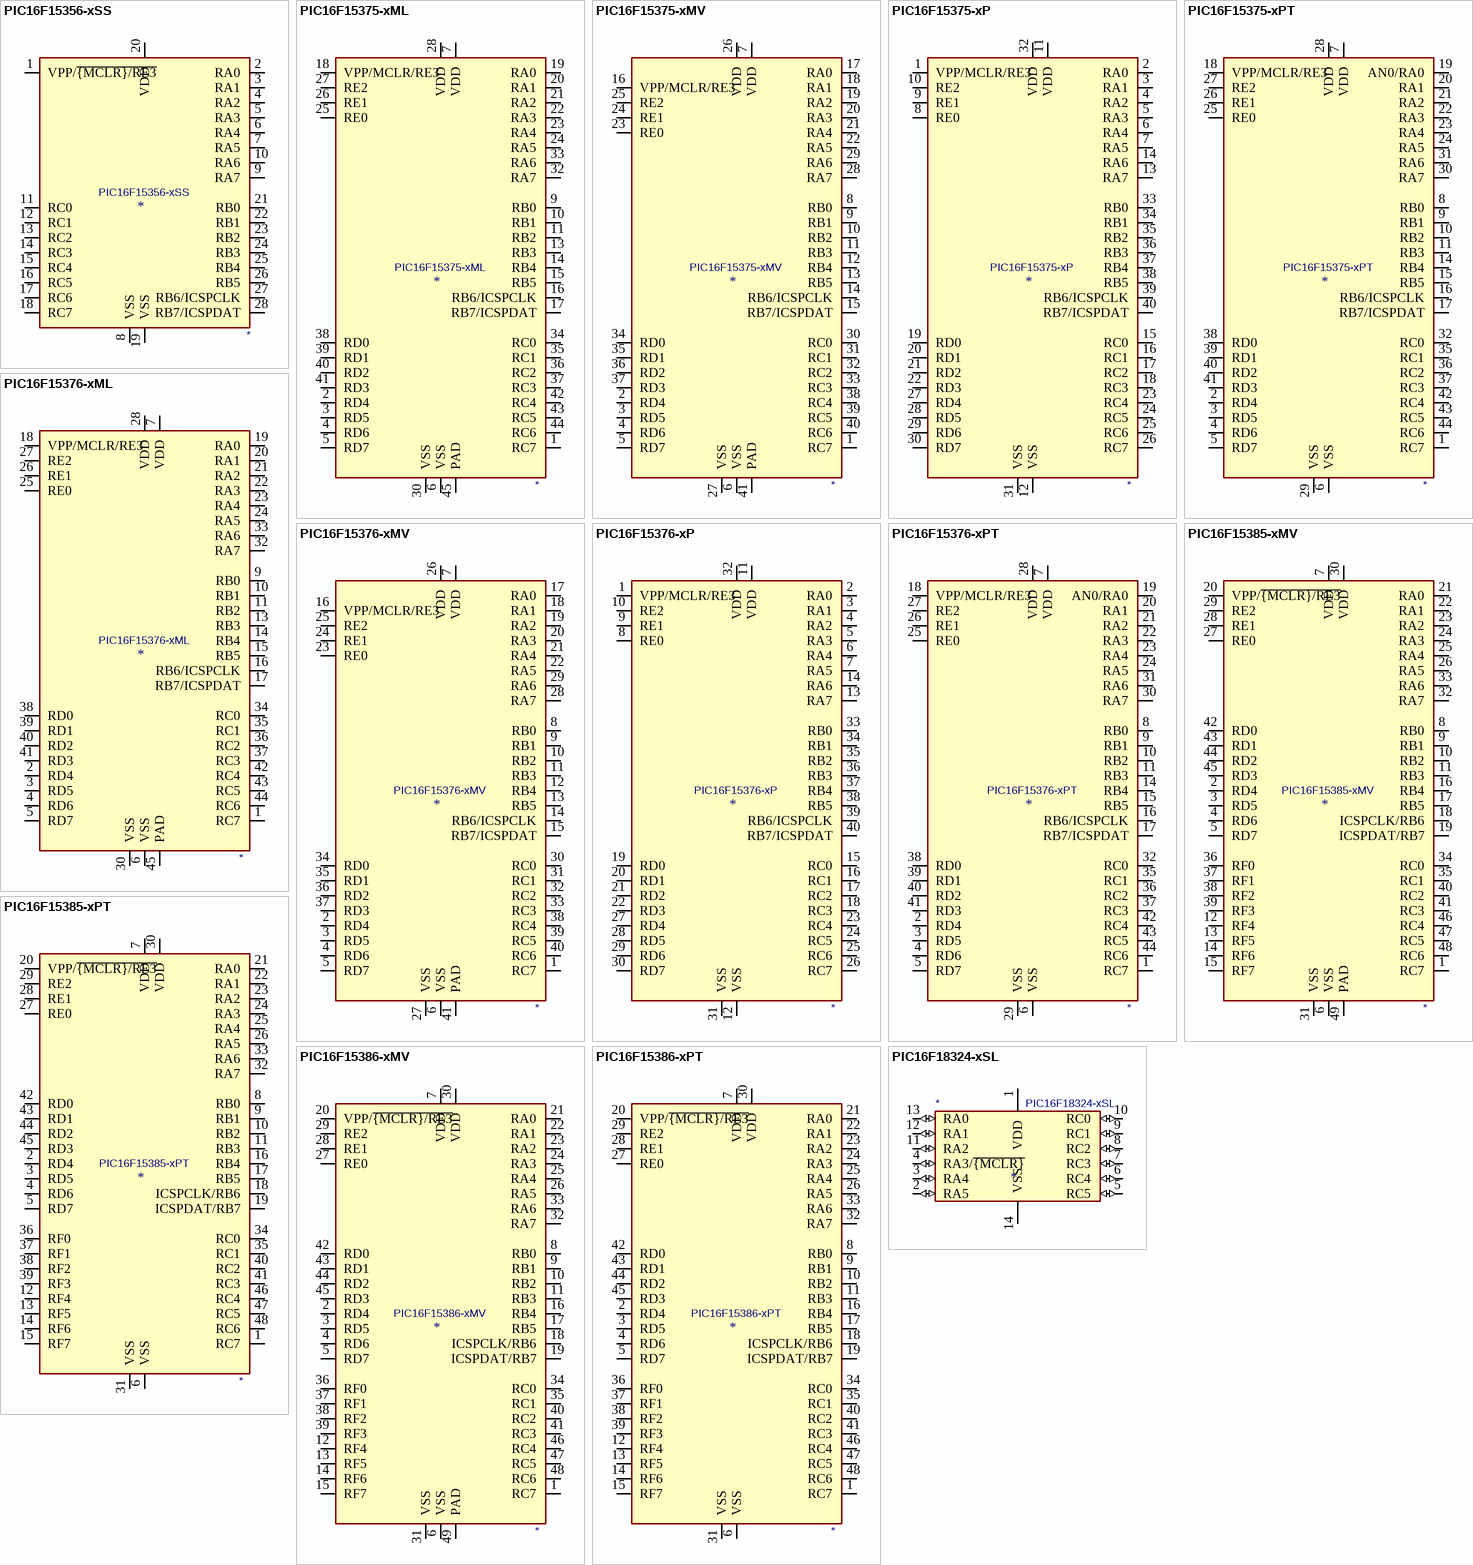
[diagram p14: symbols PIC16F15356-xSS to PIC16F18324-xSL]

## PIC16F15356-xSS
designator *  value PIC16F15356-xSS
ki_keywords: FLASH-Based 8-Bit CMOS Microcontroller Low Power; ki_description: 16KW FLASH, 2048B SRAM, SSOP-28; ki_fp_filters: SSOP*5.3x10.2mm*; Footprint: Package_SO:SSOP-28_5.3x10.2mm_P0.65mm; Supplier: http://ww1.microchip.com/downloads/en/DeviceDoc/PIC16LF15356-75-76-85-86-Data%20Sheet-40001866B.pdf
footprint SSOP-28_5.3x10.2mm_P0.65mm
pins: 1 VPP/~{{MCLR}/RE3} (io), 2 RA0 (io), 3 RA1 (io), 4 RA2 (io), 5 RA3 (io), 6 RA4 (io), 7 RA5 (io), 8 VSS (power), 9 RA7 (io), 10 RA6 (io), 11 RC0 (io), 12 RC1 (io), 13 RC2 (io), 14 RC3 (io), 15 RC4 (io), 16 RC5 (io), 17 RC6 (io), 18 RC7 (io), 19 VSS (power), 20 VDD (power), 21 RB0 (io), 22 RB1 (io), 23 RB2 (io), 24 RB3 (io), 25 RB4 (io), 26 RB5 (io), 27 RB6/ICSPCLK (io), 28 RB7/ICSPDAT (io)